# Altium schematic symbol library MCU_ST_STM32F7.SchLib: 155 symbols (part 6 of 6)
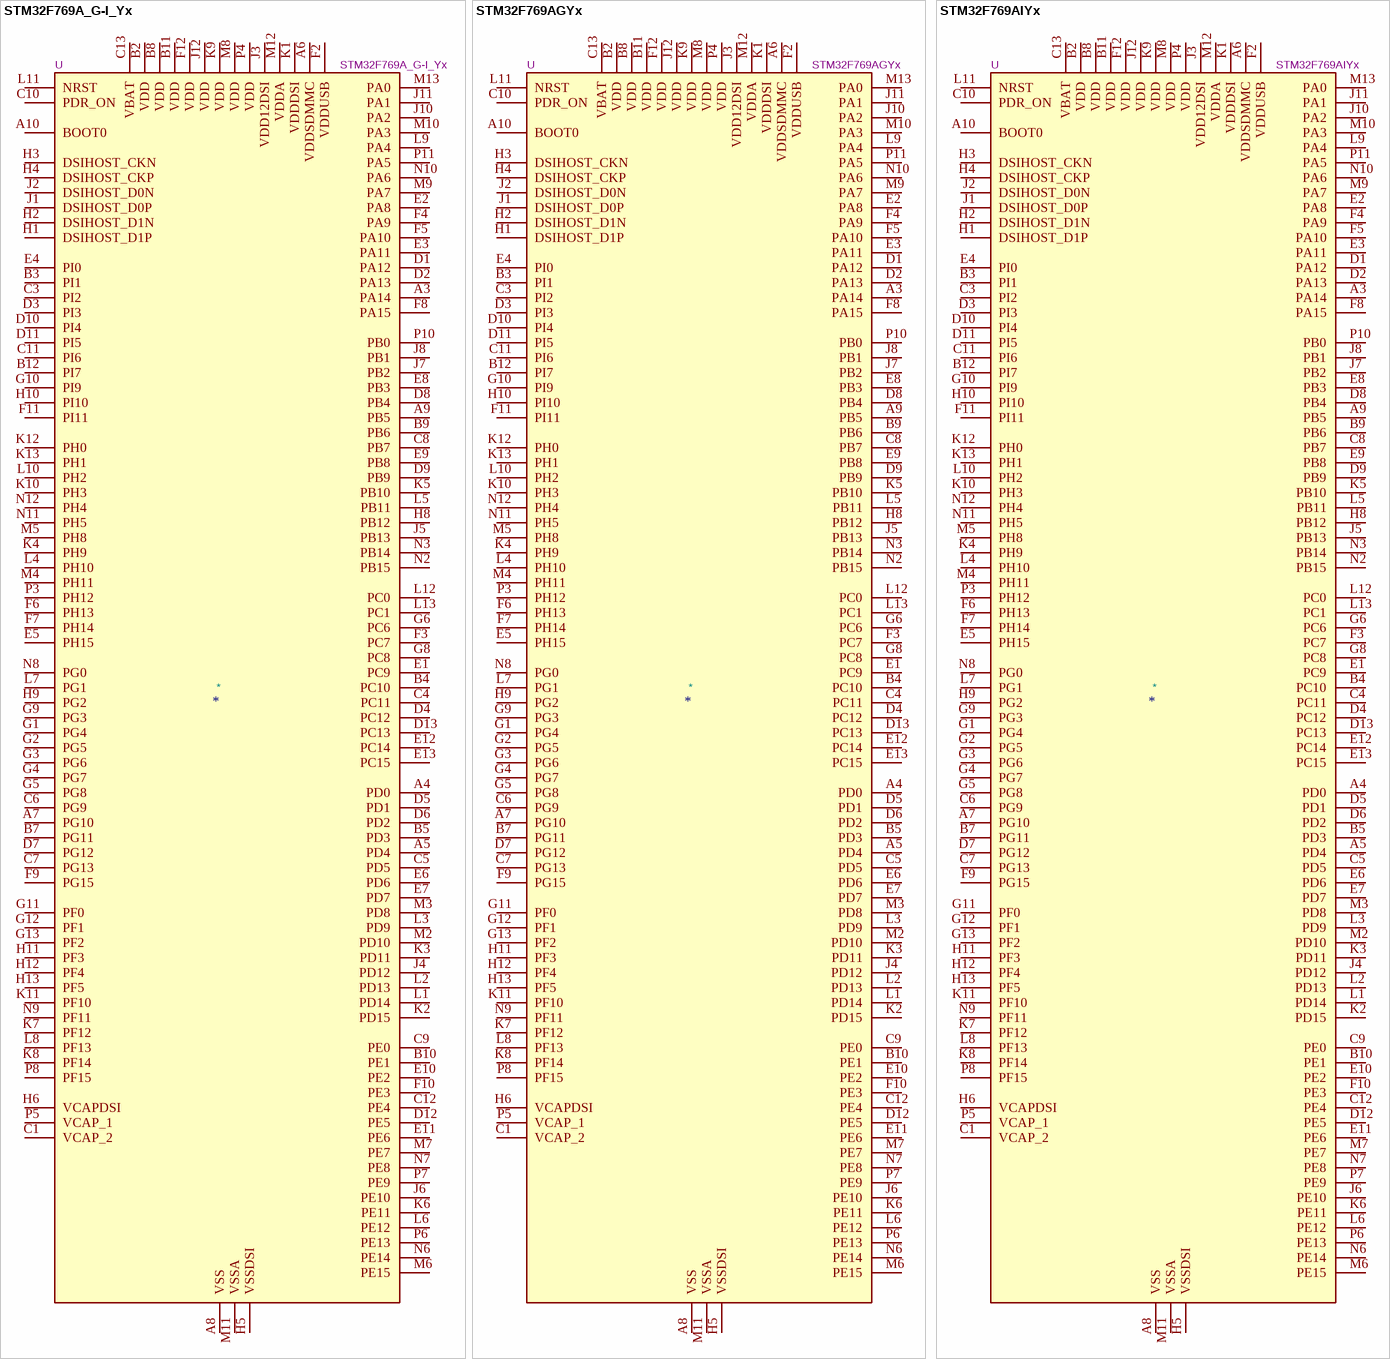
[diagram p52: symbols STM32F769A_G-I_Yx to STM32F769AIYx]

## STM32F769A_G-I_Yx
designator *  value STM32F769A_G-I_Yx  Reference: U
ki_keywords: Arm Cortex-M7 STM32F7 STM32F7x9; ki_description: STMicroelectronics Arm Cortex-M7 MCU, 1024-2048KB flash, 512KB RAM, 216 MHz, 1.7-3.6V, 128 GPIO, WLCSP180; ki_fp_filters: ST*WLCSP*Die451*; Footprint: Package_CSP:ST_WLCSP-180_Die451; Datasheet: https://www.st.com/resource/en/datasheet/stm32f769a.pdf
pins: A1 NC hidden, A2 NC hidden, A3 PA14, A4 PD0, A5 PD4, A6 VDDSDMMC, A7 PG10, A8 VSS, A9 PB5, A10 BOOT0, A11 VSS hidden, A12 NC hidden, A13 NC hidden, B1 NC hidden, B2 VDD, B3 PI1, B4 PC10, B5 PD3, B6 VSS hidden, B7 PG11, B8 VDD, B9 PB6, B10 PE1, B11 VDD, B12 PI7, B13 NC hidden, C1 VCAP_2, C2 VSS hidden, C3 PI2, C4 PC11, C5 PD5, C6 PG9, C7 PG13, C8 PB7, C9 PE0, C10 PDR_ON, C11 PI6, C12 PE4, C13 VBAT, D1 PA12, D2 PA13, D3 PI3, D4 PC12, D5 PD1, D6 PD2, D7 PG12, D8 PB4, D9 PB9, D10 PI4, D11 PI5, D12 PE5, D13 PC13, E1 PC9, E2 PA8, E3 PA11, E4 PI0, E5 PH15, E6 PD6, E7 PD7, E8 PB3, E9 PB8, E10 PE2, E11 PE6, E12 PC14, E13 PC15, F1 VSS hidden, F2 VDDUSB, F3 PC7, F4 PA9, F5 PA10, F6 PH13, F7 PH14, F8 PA15, F9 PG15, F10 PE3, F11 PI11, F12 VDD, F13 VSS hidden, G1 PG4, G2 PG5, G3 PG6, G4 PG7, G5 PG8, G6 PC6, G8 PC8, G9 PG3, G10 PI9, G11 PF0, G12 PF1, G13 PF2, H1 DSIHOST_D1P, H2 DSIHOST_D1N, H3 DSIHOST_CKN, H4 DSIHOST_CKP, H5 VSSDSI, H6 VCAPDSI, H8 PB12, H9 PG2, H10 PI10, H11 PF3, H12 PF4, H13 PF5, J1 DSIHOST_D0P, J2 DSIHOST_D0N, J3 VDD12DSI, J4 PD12, J5 PB13, J6 PE10, J7 PB2, J8 PB1, J9 VSS hidden, J10 PA2, J11 PA1, J12 VDD, J13 VSS hidden, K1 VDDDSI, K2 PD15, K3 PD11, K4 PH9, K5 PB10, K6 PE11, K7 PF12, K8 PF14, K9 VDD, K10 PH3, K11 PF10, K12 PH0, K13 PH1, L1 PD14, L2 PD13, L3 PD9, L4 PH10, L5 PB11, L6 PE12, L7 PG1, L8 PF13, L9 PA4, L10 PH2, L11 NRST, L12 PC0, L13 PC1, M1 VSS hidden, M2 PD10, M3 PD8, M4 PH11, M5 PH8, M6 PE15, M7 PE7, M8 VDD, M9 PA7, M10 PA3, M11 VSSA, M12 VDDA, M13 PA0, N1 NC hidden, N2 PB15, N3 PB14, N4 VSS hidden, N5 VSS hidden, N6 PE14, N7 PE8, N8 PG0, N9 PF11, N10 PA6, N11 PH5, N12 PH4, N13 NC hidden, P1 NC hidden, P2 NC hidden, P3 PH12, P4 VDD, P5 VCAP_1, P6 PE13, P7 PE9, P8 PF15, P9 VSS hidden, P10 PB0, P11 PA5, P12 NC hidden, P13 NC hidden

## STM32F769AGYx
designator *  value STM32F769AGYx  Reference: U
ki_keywords: Arm Cortex-M7 STM32F7 STM32F7x9; ki_description: STMicroelectronics Arm Cortex-M7 MCU, 1024KB flash, 512KB RAM, 216 MHz, 1.7-3.6V, 128 GPIO, WLCSP180; ki_fp_filters: ST*WLCSP*Die451*; Footprint: Package_CSP:ST_WLCSP-180_Die451; Datasheet: https://www.st.com/resource/en/datasheet/stm32f769ag.pdf
pins: A1 NC hidden, A2 NC hidden, A3 PA14, A4 PD0, A5 PD4, A6 VDDSDMMC, A7 PG10, A8 VSS, A9 PB5, A10 BOOT0, A11 VSS hidden, A12 NC hidden, A13 NC hidden, B1 NC hidden, B2 VDD, B3 PI1, B4 PC10, B5 PD3, B6 VSS hidden, B7 PG11, B8 VDD, B9 PB6, B10 PE1, B11 VDD, B12 PI7, B13 NC hidden, C1 VCAP_2, C2 VSS hidden, C3 PI2, C4 PC11, C5 PD5, C6 PG9, C7 PG13, C8 PB7, C9 PE0, C10 PDR_ON, C11 PI6, C12 PE4, C13 VBAT, D1 PA12, D2 PA13, D3 PI3, D4 PC12, D5 PD1, D6 PD2, D7 PG12, D8 PB4, D9 PB9, D10 PI4, D11 PI5, D12 PE5, D13 PC13, E1 PC9, E2 PA8, E3 PA11, E4 PI0, E5 PH15, E6 PD6, E7 PD7, E8 PB3, E9 PB8, E10 PE2, E11 PE6, E12 PC14, E13 PC15, F1 VSS hidden, F2 VDDUSB, F3 PC7, F4 PA9, F5 PA10, F6 PH13, F7 PH14, F8 PA15, F9 PG15, F10 PE3, F11 PI11, F12 VDD, F13 VSS hidden, G1 PG4, G2 PG5, G3 PG6, G4 PG7, G5 PG8, G6 PC6, G8 PC8, G9 PG3, G10 PI9, G11 PF0, G12 PF1, G13 PF2, H1 DSIHOST_D1P, H2 DSIHOST_D1N, H3 DSIHOST_CKN, H4 DSIHOST_CKP, H5 VSSDSI, H6 VCAPDSI, H8 PB12, H9 PG2, H10 PI10, H11 PF3, H12 PF4, H13 PF5, J1 DSIHOST_D0P, J2 DSIHOST_D0N, J3 VDD12DSI, J4 PD12, J5 PB13, J6 PE10, J7 PB2, J8 PB1, J9 VSS hidden, J10 PA2, J11 PA1, J12 VDD, J13 VSS hidden, K1 VDDDSI, K2 PD15, K3 PD11, K4 PH9, K5 PB10, K6 PE11, K7 PF12, K8 PF14, K9 VDD, K10 PH3, K11 PF10, K12 PH0, K13 PH1, L1 PD14, L2 PD13, L3 PD9, L4 PH10, L5 PB11, L6 PE12, L7 PG1, L8 PF13, L9 PA4, L10 PH2, L11 NRST, L12 PC0, L13 PC1, M1 VSS hidden, M2 PD10, M3 PD8, M4 PH11, M5 PH8, M6 PE15, M7 PE7, M8 VDD, M9 PA7, M10 PA3, M11 VSSA, M12 VDDA, M13 PA0, N1 NC hidden, N2 PB15, N3 PB14, N4 VSS hidden, N5 VSS hidden, N6 PE14, N7 PE8, N8 PG0, N9 PF11, N10 PA6, N11 PH5, N12 PH4, N13 NC hidden, P1 NC hidden, P2 NC hidden, P3 PH12, P4 VDD, P5 VCAP_1, P6 PE13, P7 PE9, P8 PF15, P9 VSS hidden, P10 PB0, P11 PA5, P12 NC hidden, P13 NC hidden

## STM32F769AIYx
designator *  value STM32F769AIYx  Reference: U
ki_keywords: Arm Cortex-M7 STM32F7 STM32F7x9; ki_description: STMicroelectronics Arm Cortex-M7 MCU, 2048KB flash, 512KB RAM, 216 MHz, 1.7-3.6V, 128 GPIO, WLCSP180; ki_fp_filters: ST*WLCSP*Die451*; Footprint: Package_CSP:ST_WLCSP-180_Die451; Datasheet: https://www.st.com/resource/en/datasheet/stm32f769ai.pdf
pins: A1 NC hidden, A2 NC hidden, A3 PA14, A4 PD0, A5 PD4, A6 VDDSDMMC, A7 PG10, A8 VSS, A9 PB5, A10 BOOT0, A11 VSS hidden, A12 NC hidden, A13 NC hidden, B1 NC hidden, B2 VDD, B3 PI1, B4 PC10, B5 PD3, B6 VSS hidden, B7 PG11, B8 VDD, B9 PB6, B10 PE1, B11 VDD, B12 PI7, B13 NC hidden, C1 VCAP_2, C2 VSS hidden, C3 PI2, C4 PC11, C5 PD5, C6 PG9, C7 PG13, C8 PB7, C9 PE0, C10 PDR_ON, C11 PI6, C12 PE4, C13 VBAT, D1 PA12, D2 PA13, D3 PI3, D4 PC12, D5 PD1, D6 PD2, D7 PG12, D8 PB4, D9 PB9, D10 PI4, D11 PI5, D12 PE5, D13 PC13, E1 PC9, E2 PA8, E3 PA11, E4 PI0, E5 PH15, E6 PD6, E7 PD7, E8 PB3, E9 PB8, E10 PE2, E11 PE6, E12 PC14, E13 PC15, F1 VSS hidden, F2 VDDUSB, F3 PC7, F4 PA9, F5 PA10, F6 PH13, F7 PH14, F8 PA15, F9 PG15, F10 PE3, F11 PI11, F12 VDD, F13 VSS hidden, G1 PG4, G2 PG5, G3 PG6, G4 PG7, G5 PG8, G6 PC6, G8 PC8, G9 PG3, G10 PI9, G11 PF0, G12 PF1, G13 PF2, H1 DSIHOST_D1P, H2 DSIHOST_D1N, H3 DSIHOST_CKN, H4 DSIHOST_CKP, H5 VSSDSI, H6 VCAPDSI, H8 PB12, H9 PG2, H10 PI10, H11 PF3, H12 PF4, H13 PF5, J1 DSIHOST_D0P, J2 DSIHOST_D0N, J3 VDD12DSI, J4 PD12, J5 PB13, J6 PE10, J7 PB2, J8 PB1, J9 VSS hidden, J10 PA2, J11 PA1, J12 VDD, J13 VSS hidden, K1 VDDDSI, K2 PD15, K3 PD11, K4 PH9, K5 PB10, K6 PE11, K7 PF12, K8 PF14, K9 VDD, K10 PH3, K11 PF10, K12 PH0, K13 PH1, L1 PD14, L2 PD13, L3 PD9, L4 PH10, L5 PB11, L6 PE12, L7 PG1, L8 PF13, L9 PA4, L10 PH2, L11 NRST, L12 PC0, L13 PC1, M1 VSS hidden, M2 PD10, M3 PD8, M4 PH11, M5 PH8, M6 PE15, M7 PE7, M8 VDD, M9 PA7, M10 PA3, M11 VSSA, M12 VDDA, M13 PA0, N1 NC hidden, N2 PB15, N3 PB14, N4 VSS hidden, N5 VSS hidden, N6 PE14, N7 PE8, N8 PG0, N9 PF11, N10 PA6, N11 PH5, N12 PH4, N13 NC hidden, P1 NC hidden, P2 NC hidden, P3 PH12, P4 VDD, P5 VCAP_1, P6 PE13, P7 PE9, P8 PF15, P9 VSS hidden, P10 PB0, P11 PA5, P12 NC hidden, P13 NC hidden

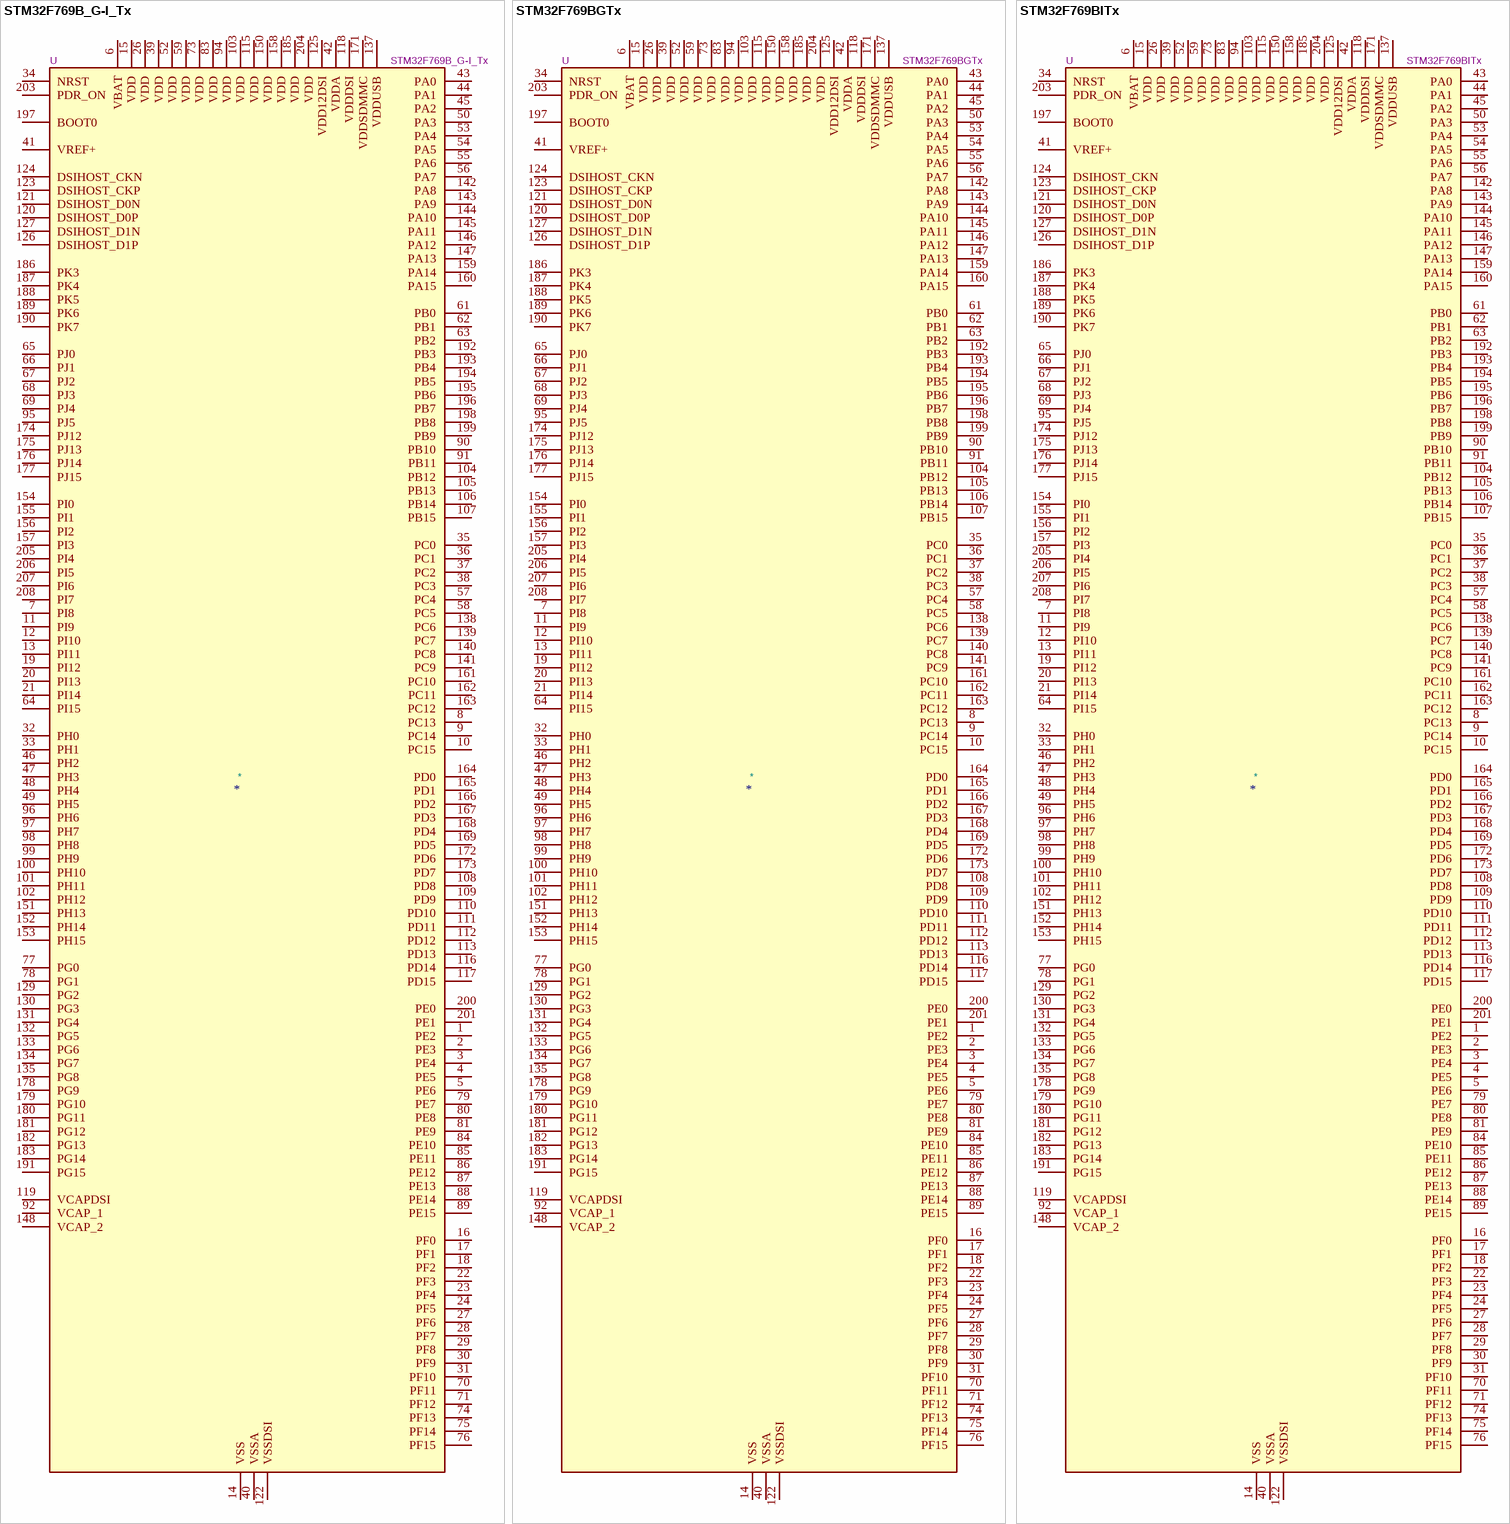
[diagram p41: symbols STM32F769B_G-I_Tx to STM32F769BITx]

## STM32F769B_G-I_Tx
designator *  value STM32F769B_G-I_Tx  Reference: U
ki_keywords: Arm Cortex-M7 STM32F7 STM32F7x9; ki_description: STMicroelectronics Arm Cortex-M7 MCU, 1024-2048KB flash, 512KB RAM, 216 MHz, 1.7-3.6V, 159 GPIO, LQFP208; ki_fp_filters: LQFP*28x28mm*P0.5mm*; Footprint: Package_QFP:LQFP-208_28x28mm_P0.5mm; Datasheet: https://www.st.com/resource/en/datasheet/stm32f769bg.pdf
pins: 1 PE2, 2 PE3, 3 PE4, 4 PE5, 5 PE6, 6 VBAT, 7 PI8, 8 PC13, 9 PC14, 10 PC15, 11 PI9, 12 PI10, 13 PI11, 14 VSS, 15 VDD, 16 PF0, 17 PF1, 18 PF2, 19 PI12, 20 PI13, 21 PI14, 22 PF3, 23 PF4, 24 PF5, 25 VSS hidden, 26 VDD, 27 PF6, 28 PF7, 29 PF8, 30 PF9, 31 PF10, 32 PH0, 33 PH1, 34 NRST, 35 PC0, 36 PC1, 37 PC2, 38 PC3, 39 VDD, 40 VSSA, 41 VREF+, 42 VDDA, 43 PA0, 44 PA1, 45 PA2, 46 PH2, 47 PH3, 48 PH4, 49 PH5, 50 PA3, 51 VSS hidden, 52 VDD, 53 PA4, 54 PA5, 55 PA6, 56 PA7, 57 PC4, 58 PC5, 59 VDD, 60 VSS hidden, 61 PB0, 62 PB1, 63 PB2, 64 PI15, 65 PJ0, 66 PJ1, 67 PJ2, 68 PJ3, 69 PJ4, 70 PF11, 71 PF12, 72 VSS hidden, 73 VDD, 74 PF13, 75 PF14, 76 PF15, 77 PG0, 78 PG1, 79 PE7, 80 PE8, 81 PE9, 82 VSS hidden, 83 VDD, 84 PE10, 85 PE11, 86 PE12, 87 PE13, 88 PE14, 89 PE15, 90 PB10, 91 PB11, 92 VCAP_1, 93 VSS hidden, 94 VDD, 95 PJ5, 96 PH6, 97 PH7, 98 PH8, 99 PH9, 100 PH10, 101 PH11, 102 PH12, 103 VDD, 104 PB12, 105 PB13, 106 PB14, 107 PB15, 108 PD8, 109 PD9, 110 PD10, 111 PD11, 112 PD12, 113 PD13, 114 VSS hidden, 115 VDD, 116 PD14, 117 PD15, 118 VDDDSI, 119 VCAPDSI, 120 DSIHOST_D0P, 121 DSIHOST_D0N, 122 VSSDSI, 123 DSIHOST_CKP, 124 DSIHOST_CKN, 125 VDD12DSI, 126 DSIHOST_D1P, 127 DSIHOST_D1N, 128 VSSDSI hidden, 129 PG2, 130 PG3, 131 PG4, 132 PG5, 133 PG6, 134 PG7, 135 PG8, 136 VSS hidden, 137 VDDUSB, 138 PC6, 139 PC7, 140 PC8, 141 PC9, 142 PA8, 143 PA9, 144 PA10, 145 PA11, 146 PA12, 147 PA13, 148 VCAP_2, 149 VSS hidden, 150 VDD, 151 PH13, 152 PH14, 153 PH15, 154 PI0, 155 PI1, 156 PI2, 157 PI3, 158 VDD, 159 PA14, 160 PA15, 161 PC10, 162 PC11, 163 PC12, 164 PD0, 165 PD1, 166 PD2, 167 PD3, 168 PD4, 169 PD5, 170 VSS hidden, 171 VDDSDMMC, 172 PD6, 173 PD7, 174 PJ12, 175 PJ13, 176 PJ14, 177 PJ15, 178 PG9, 179 PG10, 180 PG11, 181 PG12, 182 PG13, 183 PG14, 184 VSS hidden, 185 VDD, 186 PK3, 187 PK4, 188 PK5, 189 PK6, 190 PK7, 191 PG15, 192 PB3, 193 PB4, 194 PB5, 195 PB6, 196 PB7, 197 BOOT0, 198 PB8, 199 PB9, 200 PE0, 201 PE1, 202 VSS hidden, 203 PDR_ON, 204 VDD, 205 PI4, 206 PI5, 207 PI6, 208 PI7

## STM32F769BGTx
designator *  value STM32F769BGTx  Reference: U
ki_keywords: Arm Cortex-M7 STM32F7 STM32F7x9; ki_description: STMicroelectronics Arm Cortex-M7 MCU, 1024KB flash, 512KB RAM, 216 MHz, 1.7-3.6V, 159 GPIO, LQFP208; ki_fp_filters: LQFP*28x28mm*P0.5mm*; Footprint: Package_QFP:LQFP-208_28x28mm_P0.5mm; Datasheet: https://www.st.com/resource/en/datasheet/stm32f769bg.pdf
pins: 1 PE2, 2 PE3, 3 PE4, 4 PE5, 5 PE6, 6 VBAT, 7 PI8, 8 PC13, 9 PC14, 10 PC15, 11 PI9, 12 PI10, 13 PI11, 14 VSS, 15 VDD, 16 PF0, 17 PF1, 18 PF2, 19 PI12, 20 PI13, 21 PI14, 22 PF3, 23 PF4, 24 PF5, 25 VSS hidden, 26 VDD, 27 PF6, 28 PF7, 29 PF8, 30 PF9, 31 PF10, 32 PH0, 33 PH1, 34 NRST, 35 PC0, 36 PC1, 37 PC2, 38 PC3, 39 VDD, 40 VSSA, 41 VREF+, 42 VDDA, 43 PA0, 44 PA1, 45 PA2, 46 PH2, 47 PH3, 48 PH4, 49 PH5, 50 PA3, 51 VSS hidden, 52 VDD, 53 PA4, 54 PA5, 55 PA6, 56 PA7, 57 PC4, 58 PC5, 59 VDD, 60 VSS hidden, 61 PB0, 62 PB1, 63 PB2, 64 PI15, 65 PJ0, 66 PJ1, 67 PJ2, 68 PJ3, 69 PJ4, 70 PF11, 71 PF12, 72 VSS hidden, 73 VDD, 74 PF13, 75 PF14, 76 PF15, 77 PG0, 78 PG1, 79 PE7, 80 PE8, 81 PE9, 82 VSS hidden, 83 VDD, 84 PE10, 85 PE11, 86 PE12, 87 PE13, 88 PE14, 89 PE15, 90 PB10, 91 PB11, 92 VCAP_1, 93 VSS hidden, 94 VDD, 95 PJ5, 96 PH6, 97 PH7, 98 PH8, 99 PH9, 100 PH10, 101 PH11, 102 PH12, 103 VDD, 104 PB12, 105 PB13, 106 PB14, 107 PB15, 108 PD8, 109 PD9, 110 PD10, 111 PD11, 112 PD12, 113 PD13, 114 VSS hidden, 115 VDD, 116 PD14, 117 PD15, 118 VDDDSI, 119 VCAPDSI, 120 DSIHOST_D0P, 121 DSIHOST_D0N, 122 VSSDSI, 123 DSIHOST_CKP, 124 DSIHOST_CKN, 125 VDD12DSI, 126 DSIHOST_D1P, 127 DSIHOST_D1N, 128 VSSDSI hidden, 129 PG2, 130 PG3, 131 PG4, 132 PG5, 133 PG6, 134 PG7, 135 PG8, 136 VSS hidden, 137 VDDUSB, 138 PC6, 139 PC7, 140 PC8, 141 PC9, 142 PA8, 143 PA9, 144 PA10, 145 PA11, 146 PA12, 147 PA13, 148 VCAP_2, 149 VSS hidden, 150 VDD, 151 PH13, 152 PH14, 153 PH15, 154 PI0, 155 PI1, 156 PI2, 157 PI3, 158 VDD, 159 PA14, 160 PA15, 161 PC10, 162 PC11, 163 PC12, 164 PD0, 165 PD1, 166 PD2, 167 PD3, 168 PD4, 169 PD5, 170 VSS hidden, 171 VDDSDMMC, 172 PD6, 173 PD7, 174 PJ12, 175 PJ13, 176 PJ14, 177 PJ15, 178 PG9, 179 PG10, 180 PG11, 181 PG12, 182 PG13, 183 PG14, 184 VSS hidden, 185 VDD, 186 PK3, 187 PK4, 188 PK5, 189 PK6, 190 PK7, 191 PG15, 192 PB3, 193 PB4, 194 PB5, 195 PB6, 196 PB7, 197 BOOT0, 198 PB8, 199 PB9, 200 PE0, 201 PE1, 202 VSS hidden, 203 PDR_ON, 204 VDD, 205 PI4, 206 PI5, 207 PI6, 208 PI7

## STM32F769BITx
designator *  value STM32F769BITx  Reference: U
ki_keywords: Arm Cortex-M7 STM32F7 STM32F7x9; ki_description: STMicroelectronics Arm Cortex-M7 MCU, 2048KB flash, 512KB RAM, 216 MHz, 1.7-3.6V, 159 GPIO, LQFP208; ki_fp_filters: LQFP*28x28mm*P0.5mm*; Footprint: Package_QFP:LQFP-208_28x28mm_P0.5mm; Datasheet: https://www.st.com/resource/en/datasheet/stm32f769bi.pdf
pins: 1 PE2, 2 PE3, 3 PE4, 4 PE5, 5 PE6, 6 VBAT, 7 PI8, 8 PC13, 9 PC14, 10 PC15, 11 PI9, 12 PI10, 13 PI11, 14 VSS, 15 VDD, 16 PF0, 17 PF1, 18 PF2, 19 PI12, 20 PI13, 21 PI14, 22 PF3, 23 PF4, 24 PF5, 25 VSS hidden, 26 VDD, 27 PF6, 28 PF7, 29 PF8, 30 PF9, 31 PF10, 32 PH0, 33 PH1, 34 NRST, 35 PC0, 36 PC1, 37 PC2, 38 PC3, 39 VDD, 40 VSSA, 41 VREF+, 42 VDDA, 43 PA0, 44 PA1, 45 PA2, 46 PH2, 47 PH3, 48 PH4, 49 PH5, 50 PA3, 51 VSS hidden, 52 VDD, 53 PA4, 54 PA5, 55 PA6, 56 PA7, 57 PC4, 58 PC5, 59 VDD, 60 VSS hidden, 61 PB0, 62 PB1, 63 PB2, 64 PI15, 65 PJ0, 66 PJ1, 67 PJ2, 68 PJ3, 69 PJ4, 70 PF11, 71 PF12, 72 VSS hidden, 73 VDD, 74 PF13, 75 PF14, 76 PF15, 77 PG0, 78 PG1, 79 PE7, 80 PE8, 81 PE9, 82 VSS hidden, 83 VDD, 84 PE10, 85 PE11, 86 PE12, 87 PE13, 88 PE14, 89 PE15, 90 PB10, 91 PB11, 92 VCAP_1, 93 VSS hidden, 94 VDD, 95 PJ5, 96 PH6, 97 PH7, 98 PH8, 99 PH9, 100 PH10, 101 PH11, 102 PH12, 103 VDD, 104 PB12, 105 PB13, 106 PB14, 107 PB15, 108 PD8, 109 PD9, 110 PD10, 111 PD11, 112 PD12, 113 PD13, 114 VSS hidden, 115 VDD, 116 PD14, 117 PD15, 118 VDDDSI, 119 VCAPDSI, 120 DSIHOST_D0P, 121 DSIHOST_D0N, 122 VSSDSI, 123 DSIHOST_CKP, 124 DSIHOST_CKN, 125 VDD12DSI, 126 DSIHOST_D1P, 127 DSIHOST_D1N, 128 VSSDSI hidden, 129 PG2, 130 PG3, 131 PG4, 132 PG5, 133 PG6, 134 PG7, 135 PG8, 136 VSS hidden, 137 VDDUSB, 138 PC6, 139 PC7, 140 PC8, 141 PC9, 142 PA8, 143 PA9, 144 PA10, 145 PA11, 146 PA12, 147 PA13, 148 VCAP_2, 149 VSS hidden, 150 VDD, 151 PH13, 152 PH14, 153 PH15, 154 PI0, 155 PI1, 156 PI2, 157 PI3, 158 VDD, 159 PA14, 160 PA15, 161 PC10, 162 PC11, 163 PC12, 164 PD0, 165 PD1, 166 PD2, 167 PD3, 168 PD4, 169 PD5, 170 VSS hidden, 171 VDDSDMMC, 172 PD6, 173 PD7, 174 PJ12, 175 PJ13, 176 PJ14, 177 PJ15, 178 PG9, 179 PG10, 180 PG11, 181 PG12, 182 PG13, 183 PG14, 184 VSS hidden, 185 VDD, 186 PK3, 187 PK4, 188 PK5, 189 PK6, 190 PK7, 191 PG15, 192 PB3, 193 PB4, 194 PB5, 195 PB6, 196 PB7, 197 BOOT0, 198 PB8, 199 PB9, 200 PE0, 201 PE1, 202 VSS hidden, 203 PDR_ON, 204 VDD, 205 PI4, 206 PI5, 207 PI6, 208 PI7

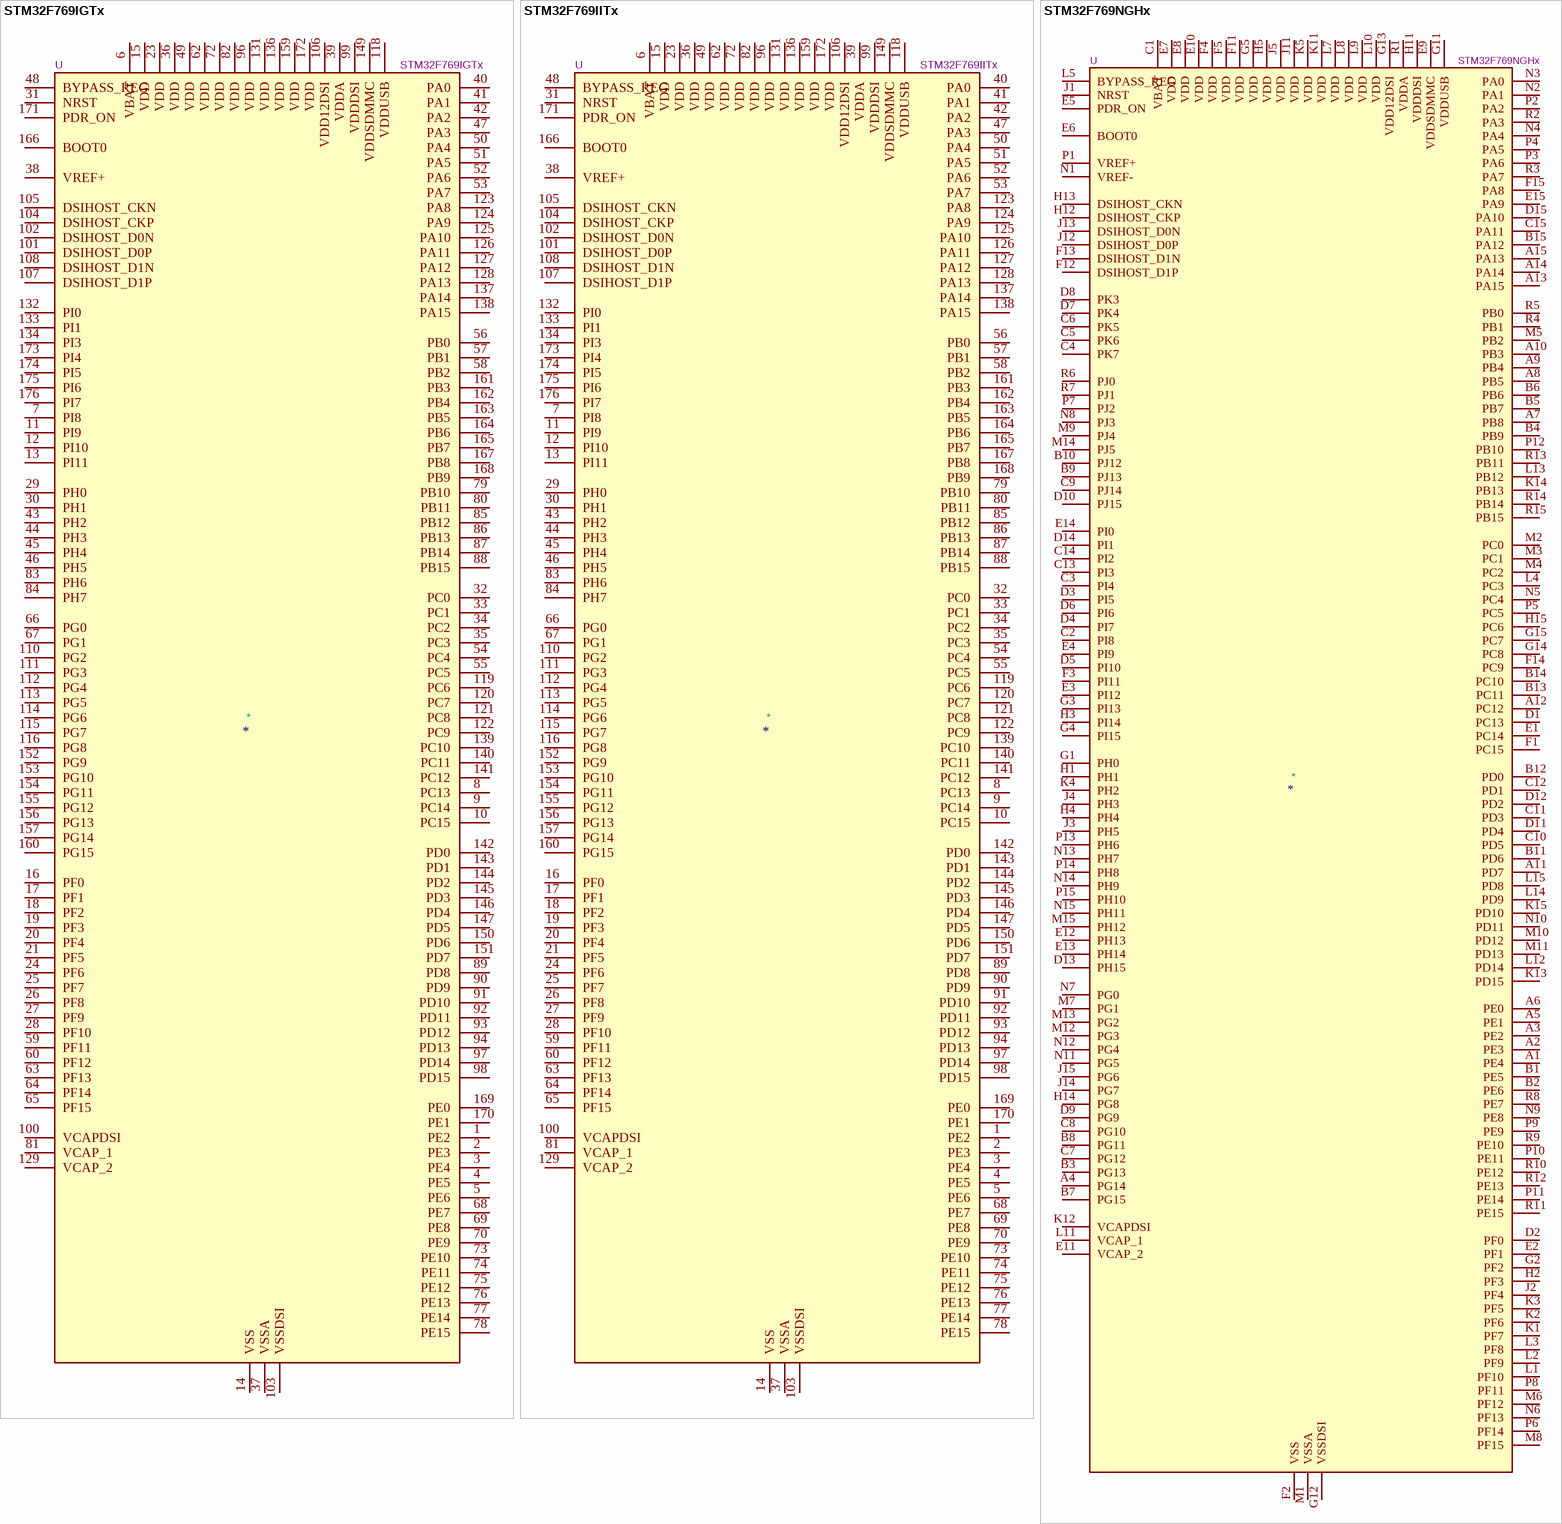
[diagram p42: symbols STM32F769IGTx to STM32F769NGHx]

## STM32F769IGTx
designator *  value STM32F769IGTx  Reference: U
ki_keywords: Arm Cortex-M7 STM32F7 STM32F7x9; ki_description: STMicroelectronics Arm Cortex-M7 MCU, 1024KB flash, 512KB RAM, 216 MHz, 1.7-3.6V, 131 GPIO, LQFP176; ki_fp_filters: LQFP*24x24mm*P0.5mm*; Footprint: Package_QFP:LQFP-176_24x24mm_P0.5mm; Datasheet: https://www.st.com/resource/en/datasheet/stm32f769ig.pdf
pins: 1 PE2, 2 PE3, 3 PE4, 4 PE5, 5 PE6, 6 VBAT, 7 PI8, 8 PC13, 9 PC14, 10 PC15, 11 PI9, 12 PI10, 13 PI11, 14 VSS, 15 VDD, 16 PF0, 17 PF1, 18 PF2, 19 PF3, 20 PF4, 21 PF5, 22 VSS hidden, 23 VDD, 24 PF6, 25 PF7, 26 PF8, 27 PF9, 28 PF10, 29 PH0, 30 PH1, 31 NRST, 32 PC0, 33 PC1, 34 PC2, 35 PC3, 36 VDD, 37 VSSA, 38 VREF+, 39 VDDA, 40 PA0, 41 PA1, 42 PA2, 43 PH2, 44 PH3, 45 PH4, 46 PH5, 47 PA3, 48 BYPASS_REG, 49 VDD, 50 PA4, 51 PA5, 52 PA6, 53 PA7, 54 PC4, 55 PC5, 56 PB0, 57 PB1, 58 PB2, 59 PF11, 60 PF12, 61 VSS hidden, 62 VDD, 63 PF13, 64 PF14, 65 PF15, 66 PG0, 67 PG1, 68 PE7, 69 PE8, 70 PE9, 71 VSS hidden, 72 VDD, 73 PE10, 74 PE11, 75 PE12, 76 PE13, 77 PE14, 78 PE15, 79 PB10, 80 PB11, 81 VCAP_1, 82 VDD, 83 PH6, 84 PH7, 85 PB12, 86 PB13, 87 PB14, 88 PB15, 89 PD8, 90 PD9, 91 PD10, 92 PD11, 93 PD12, 94 PD13, 95 VSS hidden, 96 VDD, 97 PD14, 98 PD15, 99 VDDDSI, 100 VCAPDSI, 101 DSIHOST_D0P, 102 DSIHOST_D0N, 103 VSSDSI, 104 DSIHOST_CKP, 105 DSIHOST_CKN, 106 VDD12DSI, 107 DSIHOST_D1P, 108 DSIHOST_D1N, 109 VSSDSI hidden, 110 PG2, 111 PG3, 112 PG4, 113 PG5, 114 PG6, 115 PG7, 116 PG8, 117 VSS hidden, 118 VDDUSB, 119 PC6, 120 PC7, 121 PC8, 122 PC9, 123 PA8, 124 PA9, 125 PA10, 126 PA11, 127 PA12, 128 PA13, 129 VCAP_2, 130 VSS hidden, 131 VDD, 132 PI0, 133 PI1, 134 PI3, 135 VSS hidden, 136 VDD, 137 PA14, 138 PA15, 139 PC10, 140 PC11, 141 PC12, 142 PD0, 143 PD1, 144 PD2, 145 PD3, 146 PD4, 147 PD5, 148 VSS hidden, 149 VDDSDMMC, 150 PD6, 151 PD7, 152 PG9, 153 PG10, 154 PG11, 155 PG12, 156 PG13, 157 PG14, 158 VSS hidden, 159 VDD, 160 PG15, 161 PB3, 162 PB4, 163 PB5, 164 PB6, 165 PB7, 166 BOOT0, 167 PB8, 168 PB9, 169 PE0, 170 PE1, 171 PDR_ON, 172 VDD, 173 PI4, 174 PI5, 175 PI6, 176 PI7

## STM32F769IITx
designator *  value STM32F769IITx  Reference: U
ki_keywords: Arm Cortex-M7 STM32F7 STM32F7x9; ki_description: STMicroelectronics Arm Cortex-M7 MCU, 2048KB flash, 512KB RAM, 216 MHz, 1.7-3.6V, 131 GPIO, LQFP176; ki_fp_filters: LQFP*24x24mm*P0.5mm*; Footprint: Package_QFP:LQFP-176_24x24mm_P0.5mm; Datasheet: https://www.st.com/resource/en/datasheet/stm32f769ii.pdf
pins: 1 PE2, 2 PE3, 3 PE4, 4 PE5, 5 PE6, 6 VBAT, 7 PI8, 8 PC13, 9 PC14, 10 PC15, 11 PI9, 12 PI10, 13 PI11, 14 VSS, 15 VDD, 16 PF0, 17 PF1, 18 PF2, 19 PF3, 20 PF4, 21 PF5, 22 VSS hidden, 23 VDD, 24 PF6, 25 PF7, 26 PF8, 27 PF9, 28 PF10, 29 PH0, 30 PH1, 31 NRST, 32 PC0, 33 PC1, 34 PC2, 35 PC3, 36 VDD, 37 VSSA, 38 VREF+, 39 VDDA, 40 PA0, 41 PA1, 42 PA2, 43 PH2, 44 PH3, 45 PH4, 46 PH5, 47 PA3, 48 BYPASS_REG, 49 VDD, 50 PA4, 51 PA5, 52 PA6, 53 PA7, 54 PC4, 55 PC5, 56 PB0, 57 PB1, 58 PB2, 59 PF11, 60 PF12, 61 VSS hidden, 62 VDD, 63 PF13, 64 PF14, 65 PF15, 66 PG0, 67 PG1, 68 PE7, 69 PE8, 70 PE9, 71 VSS hidden, 72 VDD, 73 PE10, 74 PE11, 75 PE12, 76 PE13, 77 PE14, 78 PE15, 79 PB10, 80 PB11, 81 VCAP_1, 82 VDD, 83 PH6, 84 PH7, 85 PB12, 86 PB13, 87 PB14, 88 PB15, 89 PD8, 90 PD9, 91 PD10, 92 PD11, 93 PD12, 94 PD13, 95 VSS hidden, 96 VDD, 97 PD14, 98 PD15, 99 VDDDSI, 100 VCAPDSI, 101 DSIHOST_D0P, 102 DSIHOST_D0N, 103 VSSDSI, 104 DSIHOST_CKP, 105 DSIHOST_CKN, 106 VDD12DSI, 107 DSIHOST_D1P, 108 DSIHOST_D1N, 109 VSSDSI hidden, 110 PG2, 111 PG3, 112 PG4, 113 PG5, 114 PG6, 115 PG7, 116 PG8, 117 VSS hidden, 118 VDDUSB, 119 PC6, 120 PC7, 121 PC8, 122 PC9, 123 PA8, 124 PA9, 125 PA10, 126 PA11, 127 PA12, 128 PA13, 129 VCAP_2, 130 VSS hidden, 131 VDD, 132 PI0, 133 PI1, 134 PI3, 135 VSS hidden, 136 VDD, 137 PA14, 138 PA15, 139 PC10, 140 PC11, 141 PC12, 142 PD0, 143 PD1, 144 PD2, 145 PD3, 146 PD4, 147 PD5, 148 VSS hidden, 149 VDDSDMMC, 150 PD6, 151 PD7, 152 PG9, 153 PG10, 154 PG11, 155 PG12, 156 PG13, 157 PG14, 158 VSS hidden, 159 VDD, 160 PG15, 161 PB3, 162 PB4, 163 PB5, 164 PB6, 165 PB7, 166 BOOT0, 167 PB8, 168 PB9, 169 PE0, 170 PE1, 171 PDR_ON, 172 VDD, 173 PI4, 174 PI5, 175 PI6, 176 PI7

## STM32F769NGHx
designator *  value STM32F769NGHx  Reference: U
ki_keywords: Arm Cortex-M7 STM32F7 STM32F7x9; ki_description: STMicroelectronics Arm Cortex-M7 MCU, 1024KB flash, 512KB RAM, 216 MHz, 1.7-3.6V, 159 GPIO, TFBGA216; ki_fp_filters: TFBGA*13x13mm*Layout15x15*P0.8mm*; Footprint: Package_BGA:TFBGA-216_13x13mm_Layout15x15_P0.8mm; Datasheet: https://www.st.com/resource/en/datasheet/stm32f769ng.pdf
pins: A1 PE4, A2 PE3, A3 PE2, A4 PG14, A5 PE1, A6 PE0, A7 PB8, A8 PB5, A9 PB4, A10 PB3, A11 PD7, A12 PC12, A13 PA15, A14 PA14, A15 PA13, B1 PE5, B2 PE6, B3 PG13, B4 PB9, B5 PB7, B6 PB6, B7 PG15, B8 PG11, B9 PJ13, B10 PJ12, B11 PD6, B12 PD0, B13 PC11, B14 PC10, B15 PA12, C1 VBAT, C2 PI8, C3 PI4, C4 PK7, C5 PK6, C6 PK5, C7 PG12, C8 PG10, C9 PJ14, C10 PD5, C11 PD3, C12 PD1, C13 PI3, C14 PI2, C15 PA11, D1 PC13, D2 PF0, D3 PI5, D4 PI7, D5 PI10, D6 PI6, D7 PK4, D8 PK3, D9 PG9, D10 PJ15, D11 PD4, D12 PD2, D13 PH15, D14 PI1, D15 PA10, E1 PC14, E2 PF1, E3 PI12, E4 PI9, E5 PDR_ON, E6 BOOT0, E7 VDD, E8 VDD, E9 VDDSDMMC, E10 VDD, E11 VCAP_2, E12 PH13, E13 PH14, E14 PI0, E15 PA9, F1 PC15, F2 VSS, F3 PI11, F4 VDD, F5 VDD, F6 VSS hidden, F7 VSS hidden, F8 VSS hidden, F9 VSS hidden, F10 VSS hidden, F11 VDD, F12 DSIHOST_D1P, F13 DSIHOST_D1N, F14 PC9, F15 PA8, G1 PH0, G2 PF2, G3 PI13, G4 PI15, G5 VDD, G6 VSS hidden, G10 VSS hidden, G11 VDDUSB, G12 VSSDSI, G13 VDD12DSI, G14 PC8, G15 PC7, H1 PH1, H2 PF3, H3 PI14, H4 PH4, H5 VDD, H6 VSS hidden, H10 VSS hidden, H11 VDDDSI, H12 DSIHOST_CKP, H13 DSIHOST_CKN, H14 PG8, H15 PC6, J1 NRST, J2 PF4, J3 PH5, J4 PH3, J5 VDD, J6 VSS hidden, J10 VSS hidden, J11 VDD, J12 DSIHOST_D0P, J13 DSIHOST_D0N, J14 PG7, J15 PG6, K1 PF7, K2 PF6, K3 PF5, K4 PH2, K5 VDD, K6 VSS hidden, K7 VSS hidden, K8 VSS hidden, K9 VSS hidden, K10 VSS hidden, K11 VDD, K12 VCAPDSI, K13 PD15, K14 PB13, K15 PD10, L1 PF10, L2 PF9, L3 PF8, L4 PC3, L5 BYPASS_REG, L6 VSS hidden, L7 VDD, L8 VDD, L9 VDD, L10 VDD, L11 VCAP_1, L12 PD14, L13 PB12, L14 PD9, L15 PD8, M1 VSSA, M2 PC0, M3 PC1, M4 PC2, M5 PB2, M6 PF12, M7 PG1, M8 PF15, M9 PJ4, M10 PD12, M11 PD13, M12 PG3, M13 PG2, M14 PJ5, M15 PH12, N1 VREF-, N2 PA1, N3 PA0, N4 PA4, N5 PC4, N6 PF13, N7 PG0, N8 PJ3, N9 PE8, N10 PD11, N11 PG5, N12 PG4, N13 PH7, N14 PH9, N15 PH11, P1 VREF+, P2 PA2, P3 PA6, P4 PA5, P5 PC5, P6 PF14, P7 PJ2, P8 PF11, P9 PE9, P10 PE11, P11 PE14, P12 PB10, P13 PH6, P14 PH8, P15 PH10, R1 VDDA, R2 PA3, R3 PA7, R4 PB1, R5 PB0, R6 PJ0, R7 PJ1, R8 PE7, R9 PE10, R10 PE12, R11 PE15, R12 PE13, R13 PB11, R14 PB14, R15 PB15

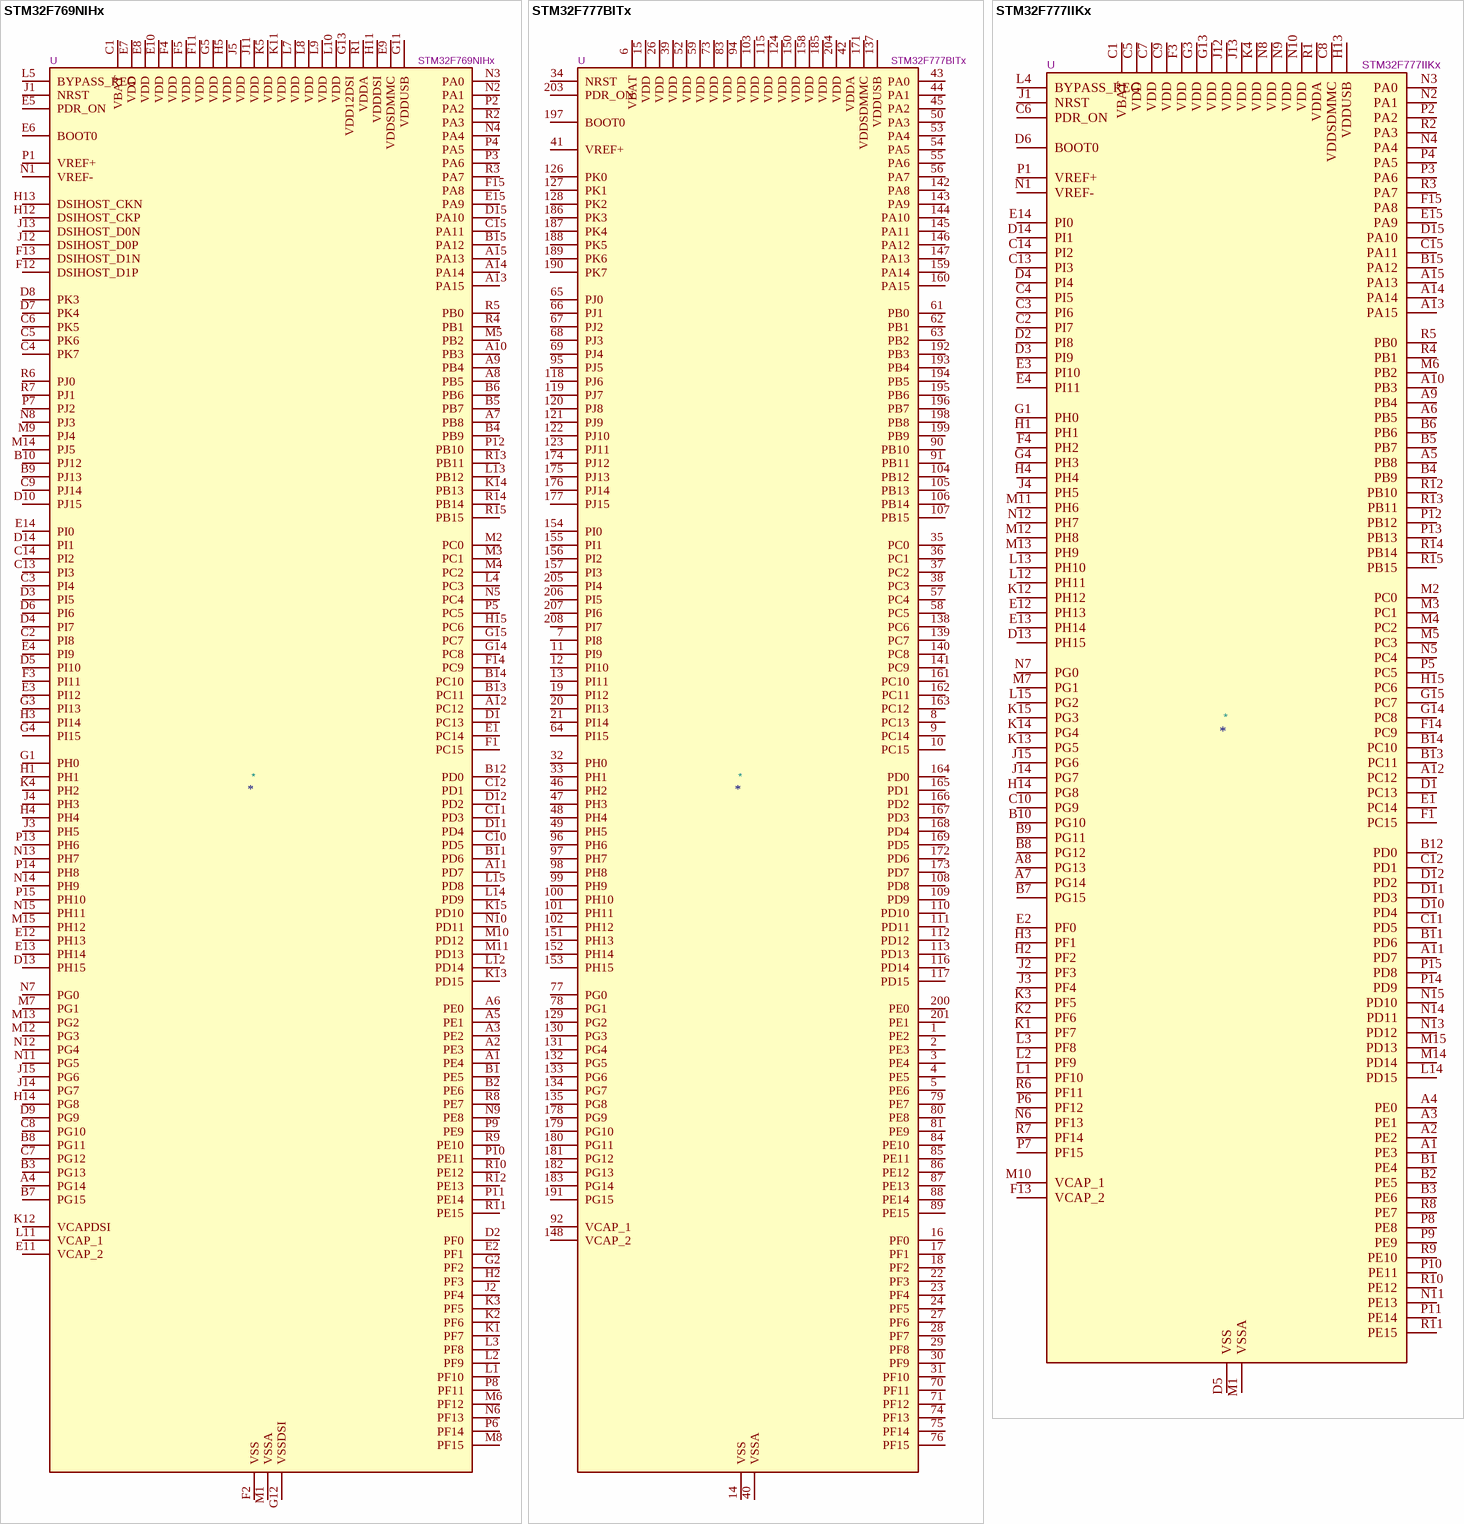
[diagram p43: symbols STM32F769NIHx to STM32F777IIKx]

## STM32F769NIHx
designator *  value STM32F769NIHx  Reference: U
ki_keywords: Arm Cortex-M7 STM32F7 STM32F7x9; ki_description: STMicroelectronics Arm Cortex-M7 MCU, 2048KB flash, 512KB RAM, 216 MHz, 1.7-3.6V, 159 GPIO, TFBGA216; ki_fp_filters: TFBGA*13x13mm*Layout15x15*P0.8mm*; Footprint: Package_BGA:TFBGA-216_13x13mm_Layout15x15_P0.8mm; Datasheet: https://www.st.com/resource/en/datasheet/stm32f769ni.pdf
pins: A1 PE4, A2 PE3, A3 PE2, A4 PG14, A5 PE1, A6 PE0, A7 PB8, A8 PB5, A9 PB4, A10 PB3, A11 PD7, A12 PC12, A13 PA15, A14 PA14, A15 PA13, B1 PE5, B2 PE6, B3 PG13, B4 PB9, B5 PB7, B6 PB6, B7 PG15, B8 PG11, B9 PJ13, B10 PJ12, B11 PD6, B12 PD0, B13 PC11, B14 PC10, B15 PA12, C1 VBAT, C2 PI8, C3 PI4, C4 PK7, C5 PK6, C6 PK5, C7 PG12, C8 PG10, C9 PJ14, C10 PD5, C11 PD3, C12 PD1, C13 PI3, C14 PI2, C15 PA11, D1 PC13, D2 PF0, D3 PI5, D4 PI7, D5 PI10, D6 PI6, D7 PK4, D8 PK3, D9 PG9, D10 PJ15, D11 PD4, D12 PD2, D13 PH15, D14 PI1, D15 PA10, E1 PC14, E2 PF1, E3 PI12, E4 PI9, E5 PDR_ON, E6 BOOT0, E7 VDD, E8 VDD, E9 VDDSDMMC, E10 VDD, E11 VCAP_2, E12 PH13, E13 PH14, E14 PI0, E15 PA9, F1 PC15, F2 VSS, F3 PI11, F4 VDD, F5 VDD, F6 VSS hidden, F7 VSS hidden, F8 VSS hidden, F9 VSS hidden, F10 VSS hidden, F11 VDD, F12 DSIHOST_D1P, F13 DSIHOST_D1N, F14 PC9, F15 PA8, G1 PH0, G2 PF2, G3 PI13, G4 PI15, G5 VDD, G6 VSS hidden, G10 VSS hidden, G11 VDDUSB, G12 VSSDSI, G13 VDD12DSI, G14 PC8, G15 PC7, H1 PH1, H2 PF3, H3 PI14, H4 PH4, H5 VDD, H6 VSS hidden, H10 VSS hidden, H11 VDDDSI, H12 DSIHOST_CKP, H13 DSIHOST_CKN, H14 PG8, H15 PC6, J1 NRST, J2 PF4, J3 PH5, J4 PH3, J5 VDD, J6 VSS hidden, J10 VSS hidden, J11 VDD, J12 DSIHOST_D0P, J13 DSIHOST_D0N, J14 PG7, J15 PG6, K1 PF7, K2 PF6, K3 PF5, K4 PH2, K5 VDD, K6 VSS hidden, K7 VSS hidden, K8 VSS hidden, K9 VSS hidden, K10 VSS hidden, K11 VDD, K12 VCAPDSI, K13 PD15, K14 PB13, K15 PD10, L1 PF10, L2 PF9, L3 PF8, L4 PC3, L5 BYPASS_REG, L6 VSS hidden, L7 VDD, L8 VDD, L9 VDD, L10 VDD, L11 VCAP_1, L12 PD14, L13 PB12, L14 PD9, L15 PD8, M1 VSSA, M2 PC0, M3 PC1, M4 PC2, M5 PB2, M6 PF12, M7 PG1, M8 PF15, M9 PJ4, M10 PD12, M11 PD13, M12 PG3, M13 PG2, M14 PJ5, M15 PH12, N1 VREF-, N2 PA1, N3 PA0, N4 PA4, N5 PC4, N6 PF13, N7 PG0, N8 PJ3, N9 PE8, N10 PD11, N11 PG5, N12 PG4, N13 PH7, N14 PH9, N15 PH11, P1 VREF+, P2 PA2, P3 PA6, P4 PA5, P5 PC5, P6 PF14, P7 PJ2, P8 PF11, P9 PE9, P10 PE11, P11 PE14, P12 PB10, P13 PH6, P14 PH8, P15 PH10, R1 VDDA, R2 PA3, R3 PA7, R4 PB1, R5 PB0, R6 PJ0, R7 PJ1, R8 PE7, R9 PE10, R10 PE12, R11 PE15, R12 PE13, R13 PB11, R14 PB14, R15 PB15

## STM32F777BITx
designator *  value STM32F777BITx  Reference: U
ki_keywords: Arm Cortex-M7 STM32F7 STM32F7x7; ki_description: STMicroelectronics Arm Cortex-M7 MCU, 2048KB flash, 512KB RAM, 216 MHz, 1.7-3.6V, 168 GPIO, LQFP208; ki_fp_filters: LQFP*28x28mm*P0.5mm*; Footprint: Package_QFP:LQFP-208_28x28mm_P0.5mm; Datasheet: https://www.st.com/resource/en/datasheet/stm32f777bi.pdf
pins: 1 PE2, 2 PE3, 3 PE4, 4 PE5, 5 PE6, 6 VBAT, 7 PI8, 8 PC13, 9 PC14, 10 PC15, 11 PI9, 12 PI10, 13 PI11, 14 VSS, 15 VDD, 16 PF0, 17 PF1, 18 PF2, 19 PI12, 20 PI13, 21 PI14, 22 PF3, 23 PF4, 24 PF5, 25 VSS hidden, 26 VDD, 27 PF6, 28 PF7, 29 PF8, 30 PF9, 31 PF10, 32 PH0, 33 PH1, 34 NRST, 35 PC0, 36 PC1, 37 PC2, 38 PC3, 39 VDD, 40 VSSA, 41 VREF+, 42 VDDA, 43 PA0, 44 PA1, 45 PA2, 46 PH2, 47 PH3, 48 PH4, 49 PH5, 50 PA3, 51 VSS hidden, 52 VDD, 53 PA4, 54 PA5, 55 PA6, 56 PA7, 57 PC4, 58 PC5, 59 VDD, 60 VSS hidden, 61 PB0, 62 PB1, 63 PB2, 64 PI15, 65 PJ0, 66 PJ1, 67 PJ2, 68 PJ3, 69 PJ4, 70 PF11, 71 PF12, 72 VSS hidden, 73 VDD, 74 PF13, 75 PF14, 76 PF15, 77 PG0, 78 PG1, 79 PE7, 80 PE8, 81 PE9, 82 VSS hidden, 83 VDD, 84 PE10, 85 PE11, 86 PE12, 87 PE13, 88 PE14, 89 PE15, 90 PB10, 91 PB11, 92 VCAP_1, 93 VSS hidden, 94 VDD, 95 PJ5, 96 PH6, 97 PH7, 98 PH8, 99 PH9, 100 PH10, 101 PH11, 102 PH12, 103 VDD, 104 PB12, 105 PB13, 106 PB14, 107 PB15, 108 PD8, 109 PD9, 110 PD10, 111 PD11, 112 PD12, 113 PD13, 114 VSS hidden, 115 VDD, 116 PD14, 117 PD15, 118 PJ6, 119 PJ7, 120 PJ8, 121 PJ9, 122 PJ10, 123 PJ11, 124 VDD, 125 VSS hidden, 126 PK0, 127 PK1, 128 PK2, 129 PG2, 130 PG3, 131 PG4, 132 PG5, 133 PG6, 134 PG7, 135 PG8, 136 VSS hidden, 137 VDDUSB, 138 PC6, 139 PC7, 140 PC8, 141 PC9, 142 PA8, 143 PA9, 144 PA10, 145 PA11, 146 PA12, 147 PA13, 148 VCAP_2, 149 VSS hidden, 150 VDD, 151 PH13, 152 PH14, 153 PH15, 154 PI0, 155 PI1, 156 PI2, 157 PI3, 158 VDD, 159 PA14, 160 PA15, 161 PC10, 162 PC11, 163 PC12, 164 PD0, 165 PD1, 166 PD2, 167 PD3, 168 PD4, 169 PD5, 170 VSS hidden, 171 VDDSDMMC, 172 PD6, 173 PD7, 174 PJ12, 175 PJ13, 176 PJ14, 177 PJ15, 178 PG9, 179 PG10, 180 PG11, 181 PG12, 182 PG13, 183 PG14, 184 VSS hidden, 185 VDD, 186 PK3, 187 PK4, 188 PK5, 189 PK6, 190 PK7, 191 PG15, 192 PB3, 193 PB4, 194 PB5, 195 PB6, 196 PB7, 197 BOOT0, 198 PB8, 199 PB9, 200 PE0, 201 PE1, 202 VSS hidden, 203 PDR_ON, 204 VDD, 205 PI4, 206 PI5, 207 PI6, 208 PI7

## STM32F777IIKx
designator *  value STM32F777IIKx  Reference: U
ki_keywords: Arm Cortex-M7 STM32F7 STM32F7x7; ki_description: STMicroelectronics Arm Cortex-M7 MCU, 2048KB flash, 512KB RAM, 216 MHz, 1.7-3.6V, 140 GPIO, UFBGA176; ki_fp_filters: *UFBGA*10x10mm*Layout15x15*P0.65mm*; Footprint: Package_BGA:UFBGA-201_10x10mm_Layout15x15_P0.65mm; Datasheet: https://www.st.com/resource/en/datasheet/stm32f777ii.pdf
pins: A1 PE3, A2 PE2, A3 PE1, A4 PE0, A5 PB8, A6 PB5, A7 PG14, A8 PG13, A9 PB4, A10 PB3, A11 PD7, A12 PC12, A13 PA15, A14 PA14, A15 PA13, B1 PE4, B2 PE5, B3 PE6, B4 PB9, B5 PB7, B6 PB6, B7 PG15, B8 PG12, B9 PG11, B10 PG10, B11 PD6, B12 PD0, B13 PC11, B14 PC10, B15 PA12, C1 VBAT, C2 PI7, C3 PI6, C4 PI5, C5 VDD, C6 PDR_ON, C7 VDD, C8 VDDSDMMC, C9 VDD, C10 PG9, C11 PD5, C12 PD1, C13 PI3, C14 PI2, C15 PA11, D1 PC13, D2 PI8, D3 PI9, D4 PI4, D5 VSS, D6 BOOT0, D7 VSS hidden, D8 VSS hidden, D9 VSS hidden, D10 PD4, D11 PD3, D12 PD2, D13 PH15, D14 PI1, D15 PA10, E1 PC14, E2 PF0, E3 PI10, E4 PI11, E12 PH13, E13 PH14, E14 PI0, E15 PA9, F1 PC15, F2 VSS hidden, F3 VDD, F4 PH2, F6 VSS hidden, F7 VSS hidden, F8 VSS hidden, F9 VSS hidden, F10 VSS hidden, F12 VSS hidden, F13 VCAP_2, F14 PC9, F15 PA8, G1 PH0, G2 VSS hidden, G3 VDD, G4 PH3, G6 VSS hidden, G7 VSS hidden, G8 VSS hidden, G9 VSS hidden, G10 VSS hidden, G12 VSS hidden, G13 VDD, G14 PC8, G15 PC7, H1 PH1, H2 PF2, H3 PF1, H4 PH4, H6 VSS hidden, H7 VSS hidden, H8 VSS hidden, H9 VSS hidden, H10 VSS hidden, H12 VSS hidden, H13 VDDUSB, H14 PG8, H15 PC6, J1 NRST, J2 PF3, J3 PF4, J4 PH5, J6 VSS hidden, J7 VSS hidden, J8 VSS hidden, J9 VSS hidden, J10 VSS hidden, J12 VDD, J13 VDD, J14 PG7, J15 PG6, K1 PF7, K2 PF6, K3 PF5, K4 VDD, K6 VSS hidden, K7 VSS hidden, K8 VSS hidden, K9 VSS hidden, K10 VSS hidden, K12 PH12, K13 PG5, K14 PG4, K15 PG3, L1 PF10, L2 PF9, L3 PF8, L4 BYPASS_REG, L12 PH11, L13 PH10, L14 PD15, L15 PG2, M1 VSSA, M2 PC0, M3 PC1, M4 PC2, M5 PC3, M6 PB2, M7 PG1, M8 VSS hidden, M9 VSS hidden, M10 VCAP_1, M11 PH6, M12 PH8, M13 PH9, M14 PD14, M15 PD13, N1 VREF-, N2 PA1, N3 PA0, N4 PA4, N5 PC4, N6 PF13, N7 PG0, N8 VDD, N9 VDD, N10 VDD, N11 PE13, N12 PH7, N13 PD12, N14 PD11, N15 PD10, P1 VREF+, P2 PA2, P3 PA6, P4 PA5, P5 PC5, P6 PF12, P7 PF15, P8 PE8, P9 PE9, P10 PE11, P11 PE14, P12 PB12, P13 PB13, P14 PD9, P15 PD8, R1 VDDA, R2 PA3, R3 PA7, R4 PB1, R5 PB0, R6 PF11, R7 PF14, R8 PE7, R9 PE10, R10 PE12, R11 PE15, R12 PB10, R13 PB11, R14 PB14, R15 PB15

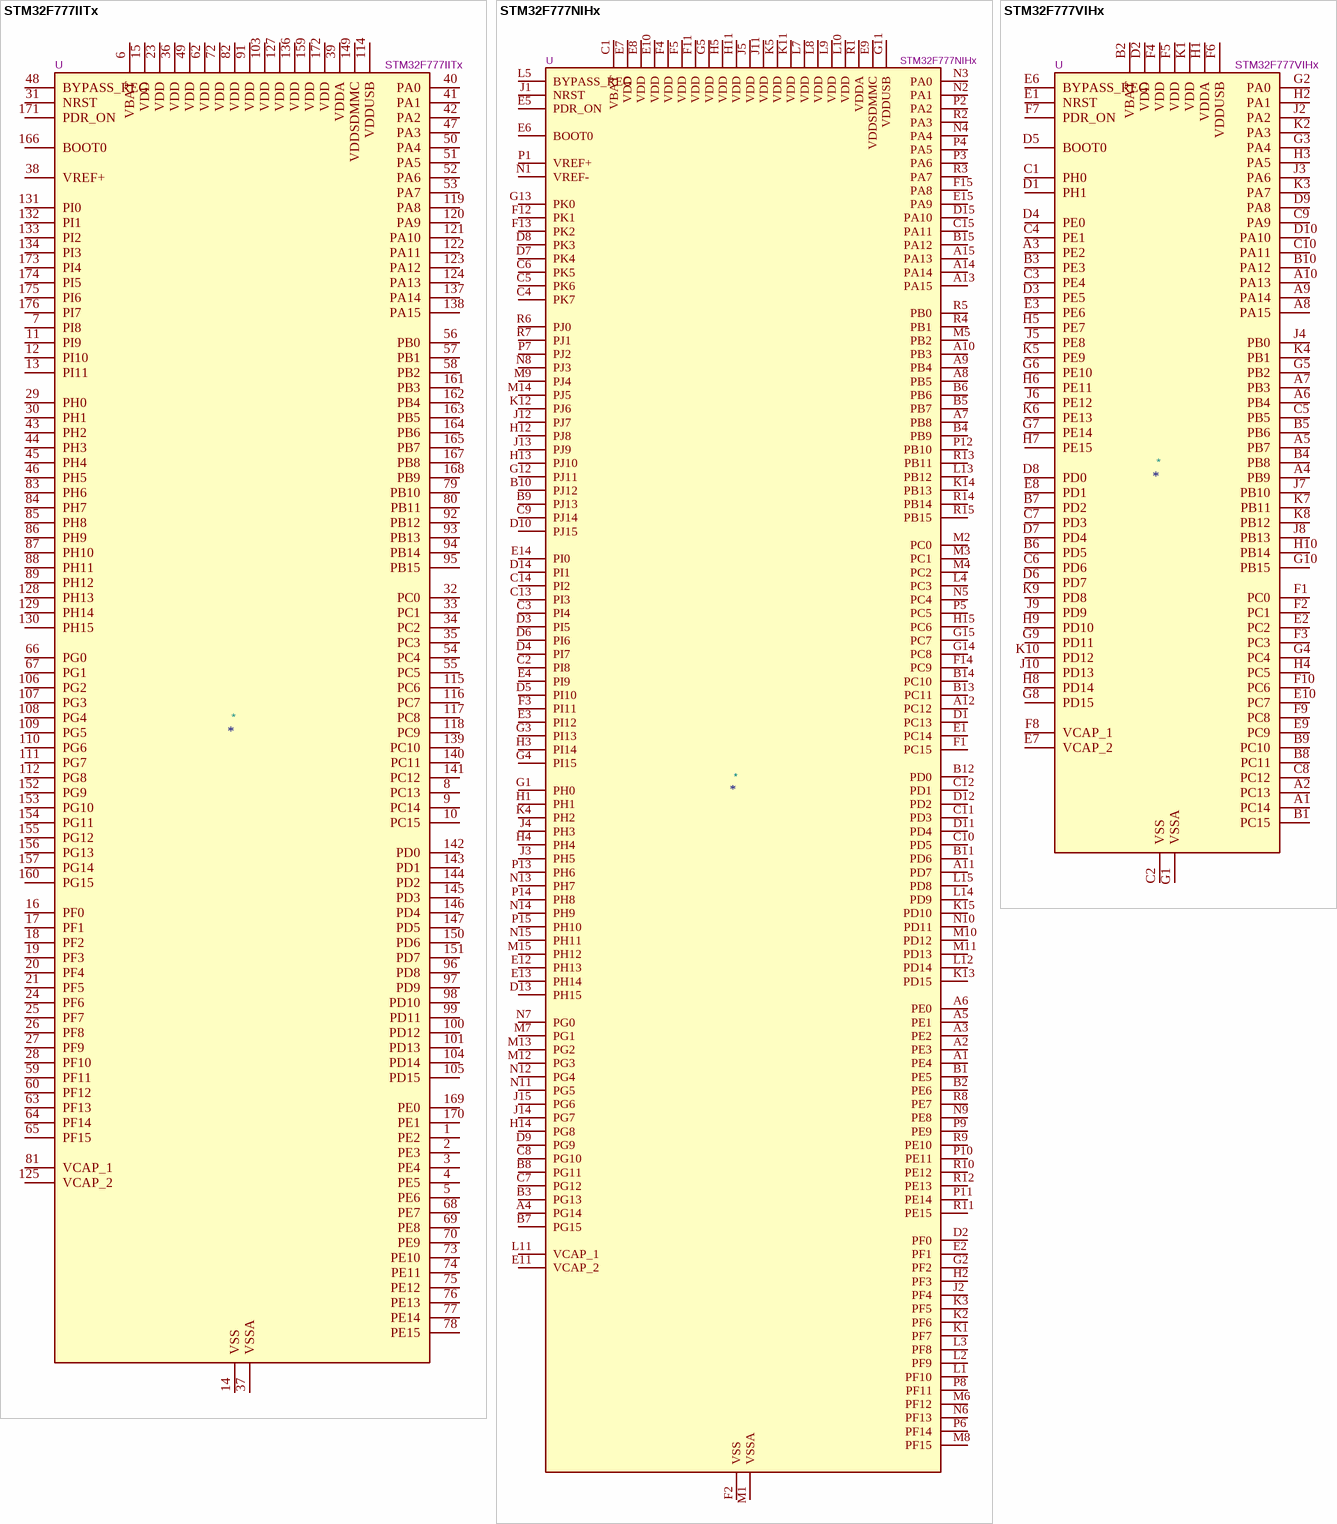
[diagram p44: symbols STM32F777IITx to STM32F777VIHx]

## STM32F777IITx
designator *  value STM32F777IITx  Reference: U
ki_keywords: Arm Cortex-M7 STM32F7 STM32F7x7; ki_description: STMicroelectronics Arm Cortex-M7 MCU, 2048KB flash, 512KB RAM, 216 MHz, 1.7-3.6V, 140 GPIO, LQFP176; ki_fp_filters: LQFP*24x24mm*P0.5mm*; Footprint: Package_QFP:LQFP-176_24x24mm_P0.5mm; Datasheet: https://www.st.com/resource/en/datasheet/stm32f777ii.pdf
pins: 1 PE2, 2 PE3, 3 PE4, 4 PE5, 5 PE6, 6 VBAT, 7 PI8, 8 PC13, 9 PC14, 10 PC15, 11 PI9, 12 PI10, 13 PI11, 14 VSS, 15 VDD, 16 PF0, 17 PF1, 18 PF2, 19 PF3, 20 PF4, 21 PF5, 22 VSS hidden, 23 VDD, 24 PF6, 25 PF7, 26 PF8, 27 PF9, 28 PF10, 29 PH0, 30 PH1, 31 NRST, 32 PC0, 33 PC1, 34 PC2, 35 PC3, 36 VDD, 37 VSSA, 38 VREF+, 39 VDDA, 40 PA0, 41 PA1, 42 PA2, 43 PH2, 44 PH3, 45 PH4, 46 PH5, 47 PA3, 48 BYPASS_REG, 49 VDD, 50 PA4, 51 PA5, 52 PA6, 53 PA7, 54 PC4, 55 PC5, 56 PB0, 57 PB1, 58 PB2, 59 PF11, 60 PF12, 61 VSS hidden, 62 VDD, 63 PF13, 64 PF14, 65 PF15, 66 PG0, 67 PG1, 68 PE7, 69 PE8, 70 PE9, 71 VSS hidden, 72 VDD, 73 PE10, 74 PE11, 75 PE12, 76 PE13, 77 PE14, 78 PE15, 79 PB10, 80 PB11, 81 VCAP_1, 82 VDD, 83 PH6, 84 PH7, 85 PH8, 86 PH9, 87 PH10, 88 PH11, 89 PH12, 90 VSS hidden, 91 VDD, 92 PB12, 93 PB13, 94 PB14, 95 PB15, 96 PD8, 97 PD9, 98 PD10, 99 PD11, 100 PD12, 101 PD13, 102 VSS hidden, 103 VDD, 104 PD14, 105 PD15, 106 PG2, 107 PG3, 108 PG4, 109 PG5, 110 PG6, 111 PG7, 112 PG8, 113 VSS hidden, 114 VDDUSB, 115 PC6, 116 PC7, 117 PC8, 118 PC9, 119 PA8, 120 PA9, 121 PA10, 122 PA11, 123 PA12, 124 PA13, 125 VCAP_2, 126 VSS hidden, 127 VDD, 128 PH13, 129 PH14, 130 PH15, 131 PI0, 132 PI1, 133 PI2, 134 PI3, 135 VSS hidden, 136 VDD, 137 PA14, 138 PA15, 139 PC10, 140 PC11, 141 PC12, 142 PD0, 143 PD1, 144 PD2, 145 PD3, 146 PD4, 147 PD5, 148 VSS hidden, 149 VDDSDMMC, 150 PD6, 151 PD7, 152 PG9, 153 PG10, 154 PG11, 155 PG12, 156 PG13, 157 PG14, 158 VSS hidden, 159 VDD, 160 PG15, 161 PB3, 162 PB4, 163 PB5, 164 PB6, 165 PB7, 166 BOOT0, 167 PB8, 168 PB9, 169 PE0, 170 PE1, 171 PDR_ON, 172 VDD, 173 PI4, 174 PI5, 175 PI6, 176 PI7

## STM32F777NIHx
designator *  value STM32F777NIHx  Reference: U
ki_keywords: Arm Cortex-M7 STM32F7 STM32F7x7; ki_description: STMicroelectronics Arm Cortex-M7 MCU, 2048KB flash, 512KB RAM, 216 MHz, 1.7-3.6V, 168 GPIO, TFBGA216; ki_fp_filters: TFBGA*13x13mm*Layout15x15*P0.8mm*; Footprint: Package_BGA:TFBGA-216_13x13mm_Layout15x15_P0.8mm; Datasheet: https://www.st.com/resource/en/datasheet/stm32f777ni.pdf
pins: A1 PE4, A2 PE3, A3 PE2, A4 PG14, A5 PE1, A6 PE0, A7 PB8, A8 PB5, A9 PB4, A10 PB3, A11 PD7, A12 PC12, A13 PA15, A14 PA14, A15 PA13, B1 PE5, B2 PE6, B3 PG13, B4 PB9, B5 PB7, B6 PB6, B7 PG15, B8 PG11, B9 PJ13, B10 PJ12, B11 PD6, B12 PD0, B13 PC11, B14 PC10, B15 PA12, C1 VBAT, C2 PI8, C3 PI4, C4 PK7, C5 PK6, C6 PK5, C7 PG12, C8 PG10, C9 PJ14, C10 PD5, C11 PD3, C12 PD1, C13 PI3, C14 PI2, C15 PA11, D1 PC13, D2 PF0, D3 PI5, D4 PI7, D5 PI10, D6 PI6, D7 PK4, D8 PK3, D9 PG9, D10 PJ15, D11 PD4, D12 PD2, D13 PH15, D14 PI1, D15 PA10, E1 PC14, E2 PF1, E3 PI12, E4 PI9, E5 PDR_ON, E6 BOOT0, E7 VDD, E8 VDD, E9 VDDSDMMC, E10 VDD, E11 VCAP_2, E12 PH13, E13 PH14, E14 PI0, E15 PA9, F1 PC15, F2 VSS, F3 PI11, F4 VDD, F5 VDD, F6 VSS hidden, F7 VSS hidden, F8 VSS hidden, F9 VSS hidden, F10 VSS hidden, F11 VDD, F12 PK1, F13 PK2, F14 PC9, F15 PA8, G1 PH0, G2 PF2, G3 PI13, G4 PI15, G5 VDD, G6 VSS hidden, G10 VSS hidden, G11 VDDUSB, G12 PJ11, G13 PK0, G14 PC8, G15 PC7, H1 PH1, H2 PF3, H3 PI14, H4 PH4, H5 VDD, H6 VSS hidden, H10 VSS hidden, H11 VDD, H12 PJ8, H13 PJ10, H14 PG8, H15 PC6, J1 NRST, J2 PF4, J3 PH5, J4 PH3, J5 VDD, J6 VSS hidden, J10 VSS hidden, J11 VDD, J12 PJ7, J13 PJ9, J14 PG7, J15 PG6, K1 PF7, K2 PF6, K3 PF5, K4 PH2, K5 VDD, K6 VSS hidden, K7 VSS hidden, K8 VSS hidden, K9 VSS hidden, K10 VSS hidden, K11 VDD, K12 PJ6, K13 PD15, K14 PB13, K15 PD10, L1 PF10, L2 PF9, L3 PF8, L4 PC3, L5 BYPASS_REG, L6 VSS hidden, L7 VDD, L8 VDD, L9 VDD, L10 VDD, L11 VCAP_1, L12 PD14, L13 PB12, L14 PD9, L15 PD8, M1 VSSA, M2 PC0, M3 PC1, M4 PC2, M5 PB2, M6 PF12, M7 PG1, M8 PF15, M9 PJ4, M10 PD12, M11 PD13, M12 PG3, M13 PG2, M14 PJ5, M15 PH12, N1 VREF-, N2 PA1, N3 PA0, N4 PA4, N5 PC4, N6 PF13, N7 PG0, N8 PJ3, N9 PE8, N10 PD11, N11 PG5, N12 PG4, N13 PH7, N14 PH9, N15 PH11, P1 VREF+, P2 PA2, P3 PA6, P4 PA5, P5 PC5, P6 PF14, P7 PJ2, P8 PF11, P9 PE9, P10 PE11, P11 PE14, P12 PB10, P13 PH6, P14 PH8, P15 PH10, R1 VDDA, R2 PA3, R3 PA7, R4 PB1, R5 PB0, R6 PJ0, R7 PJ1, R8 PE7, R9 PE10, R10 PE12, R11 PE15, R12 PE13, R13 PB11, R14 PB14, R15 PB15

## STM32F777VIHx
designator *  value STM32F777VIHx  Reference: U
ki_keywords: Arm Cortex-M7 STM32F7 STM32F7x7; ki_description: STMicroelectronics Arm Cortex-M7 MCU, 2048KB flash, 512KB RAM, 216 MHz, 1.7-3.6V, 82 GPIO, TFBGA100; ki_fp_filters: TFBGA*8x8mm*Layout10x10*P0.8mm*; Footprint: Package_BGA:TFBGA-100_8x8mm_Layout10x10_P0.8mm; Datasheet: https://www.st.com/resource/en/datasheet/stm32f777vi.pdf
pins: A1 PC14, A2 PC13, A3 PE2, A4 PB9, A5 PB7, A6 PB4, A7 PB3, A8 PA15, A9 PA14, A10 PA13, B1 PC15, B2 VBAT, B3 PE3, B4 PB8, B5 PB6, B6 PD5, B7 PD2, B8 PC11, B9 PC10, B10 PA12, C1 PH0, C2 VSS, C3 PE4, C4 PE1, C5 PB5, C6 PD6, C7 PD3, C8 PC12, C9 PA9, C10 PA11, D1 PH1, D2 VDD, D3 PE5, D4 PE0, D5 BOOT0, D6 PD7, D7 PD4, D8 PD0, D9 PA8, D10 PA10, E1 NRST, E2 PC2, E3 PE6, E4 VSS hidden, E5 VSS hidden, E6 BYPASS_REG, E7 VCAP_2, E8 PD1, E9 PC9, E10 PC7, F1 PC0, F2 PC1, F3 PC3, F4 VDD, F5 VDD, F6 VDDUSB, F7 PDR_ON, F8 VCAP_1, F9 PC8, F10 PC6, G1 VSSA, G2 PA0, G3 PA4, G4 PC4, G5 PB2, G6 PE10, G7 PE14, G8 PD15, G9 PD11, G10 PB15, H1 VDDA, H2 PA1, H3 PA5, H4 PC5, H5 PE7, H6 PE11, H7 PE15, H8 PD14, H9 PD10, H10 PB14, J1 VSS hidden, J2 PA2, J3 PA6, J4 PB0, J5 PE8, J6 PE12, J7 PB10, J8 PB13, J9 PD9, J10 PD13, K1 VDD, K2 PA3, K3 PA7, K4 PB1, K5 PE9, K6 PE13, K7 PB11, K8 PB12, K9 PD8, K10 PD12

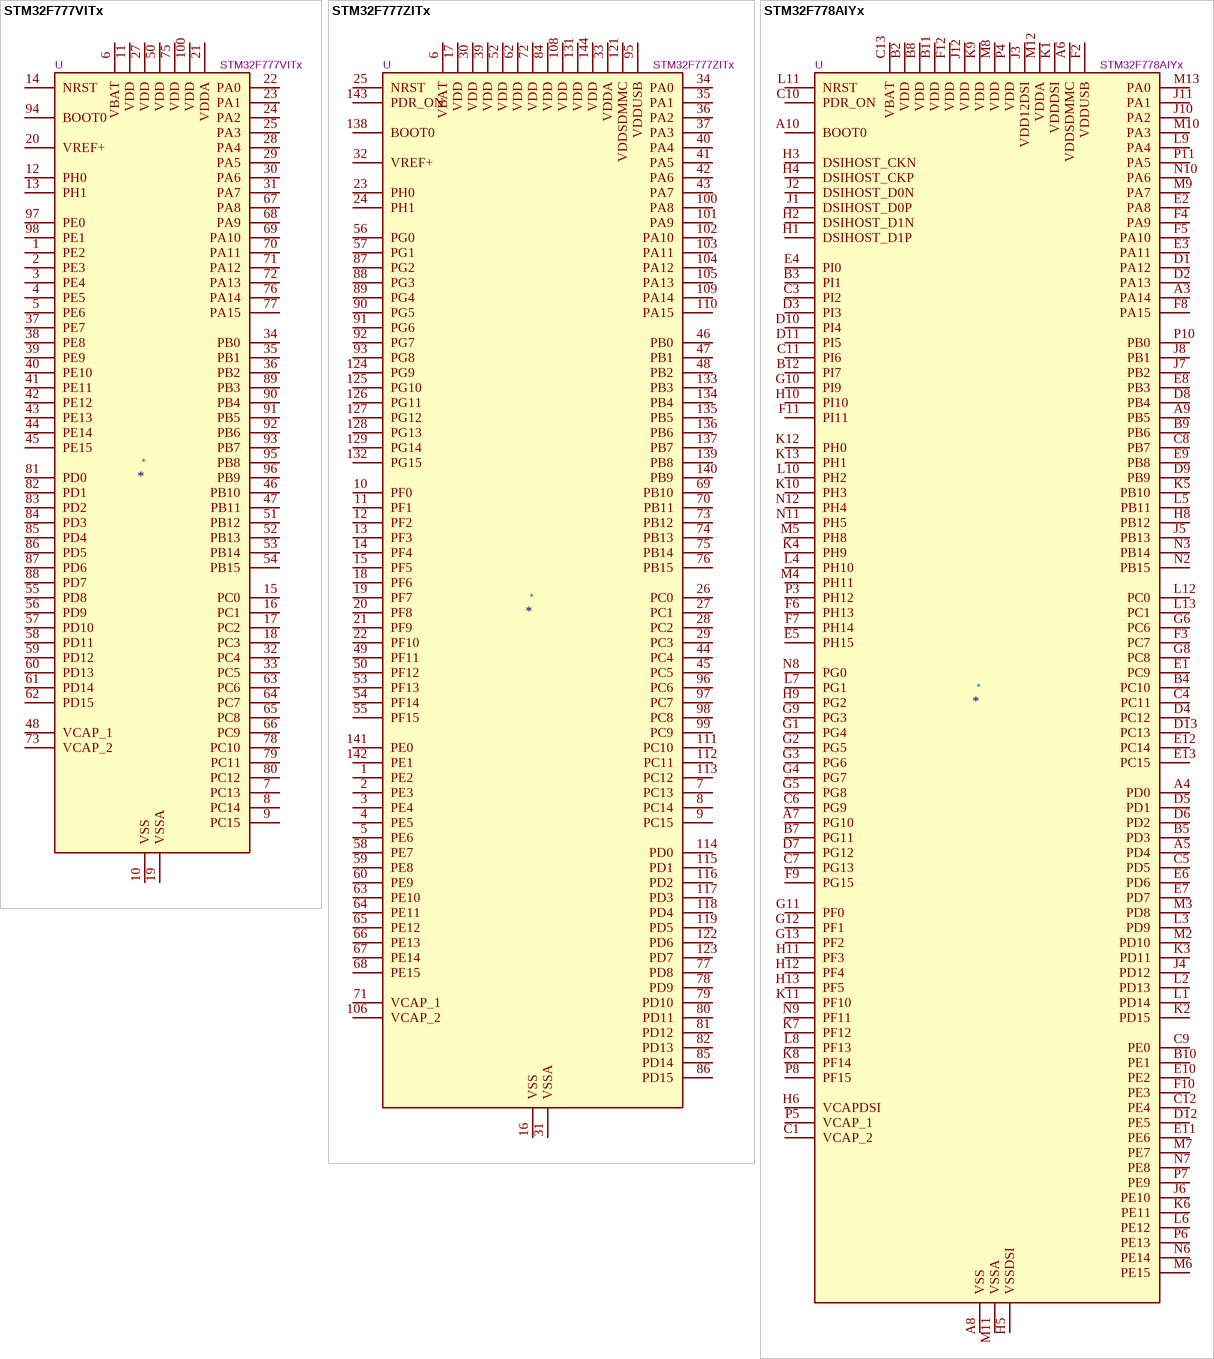
[diagram p45: symbols STM32F777VITx to STM32F778AIYx]

## STM32F777VITx
designator *  value STM32F777VITx  Reference: U
ki_keywords: Arm Cortex-M7 STM32F7 STM32F7x7; ki_description: STMicroelectronics Arm Cortex-M7 MCU, 2048KB flash, 512KB RAM, 216 MHz, 1.7-3.6V, 82 GPIO, LQFP100; ki_fp_filters: LQFP*14x14mm*P0.5mm*; Footprint: Package_QFP:LQFP-100_14x14mm_P0.5mm; Datasheet: https://www.st.com/resource/en/datasheet/stm32f777vi.pdf
pins: 1 PE2, 2 PE3, 3 PE4, 4 PE5, 5 PE6, 6 VBAT, 7 PC13, 8 PC14, 9 PC15, 10 VSS, 11 VDD, 12 PH0, 13 PH1, 14 NRST, 15 PC0, 16 PC1, 17 PC2, 18 PC3, 19 VSSA, 20 VREF+, 21 VDDA, 22 PA0, 23 PA1, 24 PA2, 25 PA3, 26 VSS hidden, 27 VDD, 28 PA4, 29 PA5, 30 PA6, 31 PA7, 32 PC4, 33 PC5, 34 PB0, 35 PB1, 36 PB2, 37 PE7, 38 PE8, 39 PE9, 40 PE10, 41 PE11, 42 PE12, 43 PE13, 44 PE14, 45 PE15, 46 PB10, 47 PB11, 48 VCAP_1, 49 VSS hidden, 50 VDD, 51 PB12, 52 PB13, 53 PB14, 54 PB15, 55 PD8, 56 PD9, 57 PD10, 58 PD11, 59 PD12, 60 PD13, 61 PD14, 62 PD15, 63 PC6, 64 PC7, 65 PC8, 66 PC9, 67 PA8, 68 PA9, 69 PA10, 70 PA11, 71 PA12, 72 PA13, 73 VCAP_2, 74 VSS hidden, 75 VDD, 76 PA14, 77 PA15, 78 PC10, 79 PC11, 80 PC12, 81 PD0, 82 PD1, 83 PD2, 84 PD3, 85 PD4, 86 PD5, 87 PD6, 88 PD7, 89 PB3, 90 PB4, 91 PB5, 92 PB6, 93 PB7, 94 BOOT0, 95 PB8, 96 PB9, 97 PE0, 98 PE1, 99 VSS hidden, 100 VDD

## STM32F777ZITx
designator *  value STM32F777ZITx  Reference: U
ki_keywords: Arm Cortex-M7 STM32F7 STM32F7x7; ki_description: STMicroelectronics Arm Cortex-M7 MCU, 2048KB flash, 512KB RAM, 216 MHz, 1.7-3.6V, 114 GPIO, LQFP144; ki_fp_filters: LQFP*20x20mm*P0.5mm*; Footprint: Package_QFP:LQFP-144_20x20mm_P0.5mm; Datasheet: https://www.st.com/resource/en/datasheet/stm32f777zi.pdf
pins: 1 PE2, 2 PE3, 3 PE4, 4 PE5, 5 PE6, 6 VBAT, 7 PC13, 8 PC14, 9 PC15, 10 PF0, 11 PF1, 12 PF2, 13 PF3, 14 PF4, 15 PF5, 16 VSS, 17 VDD, 18 PF6, 19 PF7, 20 PF8, 21 PF9, 22 PF10, 23 PH0, 24 PH1, 25 NRST, 26 PC0, 27 PC1, 28 PC2, 29 PC3, 30 VDD, 31 VSSA, 32 VREF+, 33 VDDA, 34 PA0, 35 PA1, 36 PA2, 37 PA3, 38 VSS hidden, 39 VDD, 40 PA4, 41 PA5, 42 PA6, 43 PA7, 44 PC4, 45 PC5, 46 PB0, 47 PB1, 48 PB2, 49 PF11, 50 PF12, 51 VSS hidden, 52 VDD, 53 PF13, 54 PF14, 55 PF15, 56 PG0, 57 PG1, 58 PE7, 59 PE8, 60 PE9, 61 VSS hidden, 62 VDD, 63 PE10, 64 PE11, 65 PE12, 66 PE13, 67 PE14, 68 PE15, 69 PB10, 70 PB11, 71 VCAP_1, 72 VDD, 73 PB12, 74 PB13, 75 PB14, 76 PB15, 77 PD8, 78 PD9, 79 PD10, 80 PD11, 81 PD12, 82 PD13, 83 VSS hidden, 84 VDD, 85 PD14, 86 PD15, 87 PG2, 88 PG3, 89 PG4, 90 PG5, 91 PG6, 92 PG7, 93 PG8, 94 VSS hidden, 95 VDDUSB, 96 PC6, 97 PC7, 98 PC8, 99 PC9, 100 PA8, 101 PA9, 102 PA10, 103 PA11, 104 PA12, 105 PA13, 106 VCAP_2, 107 VSS hidden, 108 VDD, 109 PA14, 110 PA15, 111 PC10, 112 PC11, 113 PC12, 114 PD0, 115 PD1, 116 PD2, 117 PD3, 118 PD4, 119 PD5, 120 VSS hidden, 121 VDDSDMMC, 122 PD6, 123 PD7, 124 PG9, 125 PG10, 126 PG11, 127 PG12, 128 PG13, 129 PG14, 130 VSS hidden, 131 VDD, 132 PG15, 133 PB3, 134 PB4, 135 PB5, 136 PB6, 137 PB7, 138 BOOT0, 139 PB8, 140 PB9, 141 PE0, 142 PE1, 143 PDR_ON, 144 VDD

## STM32F778AIYx
designator *  value STM32F778AIYx  Reference: U
ki_keywords: Arm Cortex-M7 STM32F7 STM32F7x9; ki_description: STMicroelectronics Arm Cortex-M7 MCU, 2048KB flash, 512KB RAM, 216 MHz, 1.7-3.6V, 128 GPIO, WLCSP180; ki_fp_filters: ST*WLCSP*Die451*; Footprint: Package_CSP:ST_WLCSP-180_Die451; Datasheet: https://www.st.com/resource/en/datasheet/stm32f778ai.pdf
pins: A1 NC hidden, A2 NC hidden, A3 PA14, A4 PD0, A5 PD4, A6 VDDSDMMC, A7 PG10, A8 VSS, A9 PB5, A10 BOOT0, A11 VSS hidden, A12 NC hidden, A13 NC hidden, B1 NC hidden, B2 VDD, B3 PI1, B4 PC10, B5 PD3, B6 VSS hidden, B7 PG11, B8 VDD, B9 PB6, B10 PE1, B11 VDD, B12 PI7, B13 NC hidden, C1 VCAP_2, C2 VSS hidden, C3 PI2, C4 PC11, C5 PD5, C6 PG9, C7 PG13, C8 PB7, C9 PE0, C10 PDR_ON, C11 PI6, C12 PE4, C13 VBAT, D1 PA12, D2 PA13, D3 PI3, D4 PC12, D5 PD1, D6 PD2, D7 PG12, D8 PB4, D9 PB9, D10 PI4, D11 PI5, D12 PE5, D13 PC13, E1 PC9, E2 PA8, E3 PA11, E4 PI0, E5 PH15, E6 PD6, E7 PD7, E8 PB3, E9 PB8, E10 PE2, E11 PE6, E12 PC14, E13 PC15, F1 VSS hidden, F2 VDDUSB, F3 PC7, F4 PA9, F5 PA10, F6 PH13, F7 PH14, F8 PA15, F9 PG15, F10 PE3, F11 PI11, F12 VDD, F13 VSS hidden, G1 PG4, G2 PG5, G3 PG6, G4 PG7, G5 PG8, G6 PC6, G8 PC8, G9 PG3, G10 PI9, G11 PF0, G12 PF1, G13 PF2, H1 DSIHOST_D1P, H2 DSIHOST_D1N, H3 DSIHOST_CKN, H4 DSIHOST_CKP, H5 VSSDSI, H6 VCAPDSI, H8 PB12, H9 PG2, H10 PI10, H11 PF3, H12 PF4, H13 PF5, J1 DSIHOST_D0P, J2 DSIHOST_D0N, J3 VDD12DSI, J4 PD12, J5 PB13, J6 PE10, J7 PB2, J8 PB1, J9 VSS hidden, J10 PA2, J11 PA1, J12 VDD, J13 VSS hidden, K1 VDDDSI, K2 PD15, K3 PD11, K4 PH9, K5 PB10, K6 PE11, K7 PF12, K8 PF14, K9 VDD, K10 PH3, K11 PF10, K12 PH0, K13 PH1, L1 PD14, L2 PD13, L3 PD9, L4 PH10, L5 PB11, L6 PE12, L7 PG1, L8 PF13, L9 PA4, L10 PH2, L11 NRST, L12 PC0, L13 PC1, M1 VSS hidden, M2 PD10, M3 PD8, M4 PH11, M5 PH8, M6 PE15, M7 PE7, M8 VDD, M9 PA7, M10 PA3, M11 VSSA, M12 VDDA, M13 PA0, N1 NC hidden, N2 PB15, N3 PB14, N4 VSS hidden, N5 VSS hidden, N6 PE14, N7 PE8, N8 PG0, N9 PF11, N10 PA6, N11 PH5, N12 PH4, N13 NC hidden, P1 NC hidden, P2 NC hidden, P3 PH12, P4 VDD, P5 VCAP_1, P6 PE13, P7 PE9, P8 PF15, P9 VSS hidden, P10 PB0, P11 PA5, P12 NC hidden, P13 NC hidden

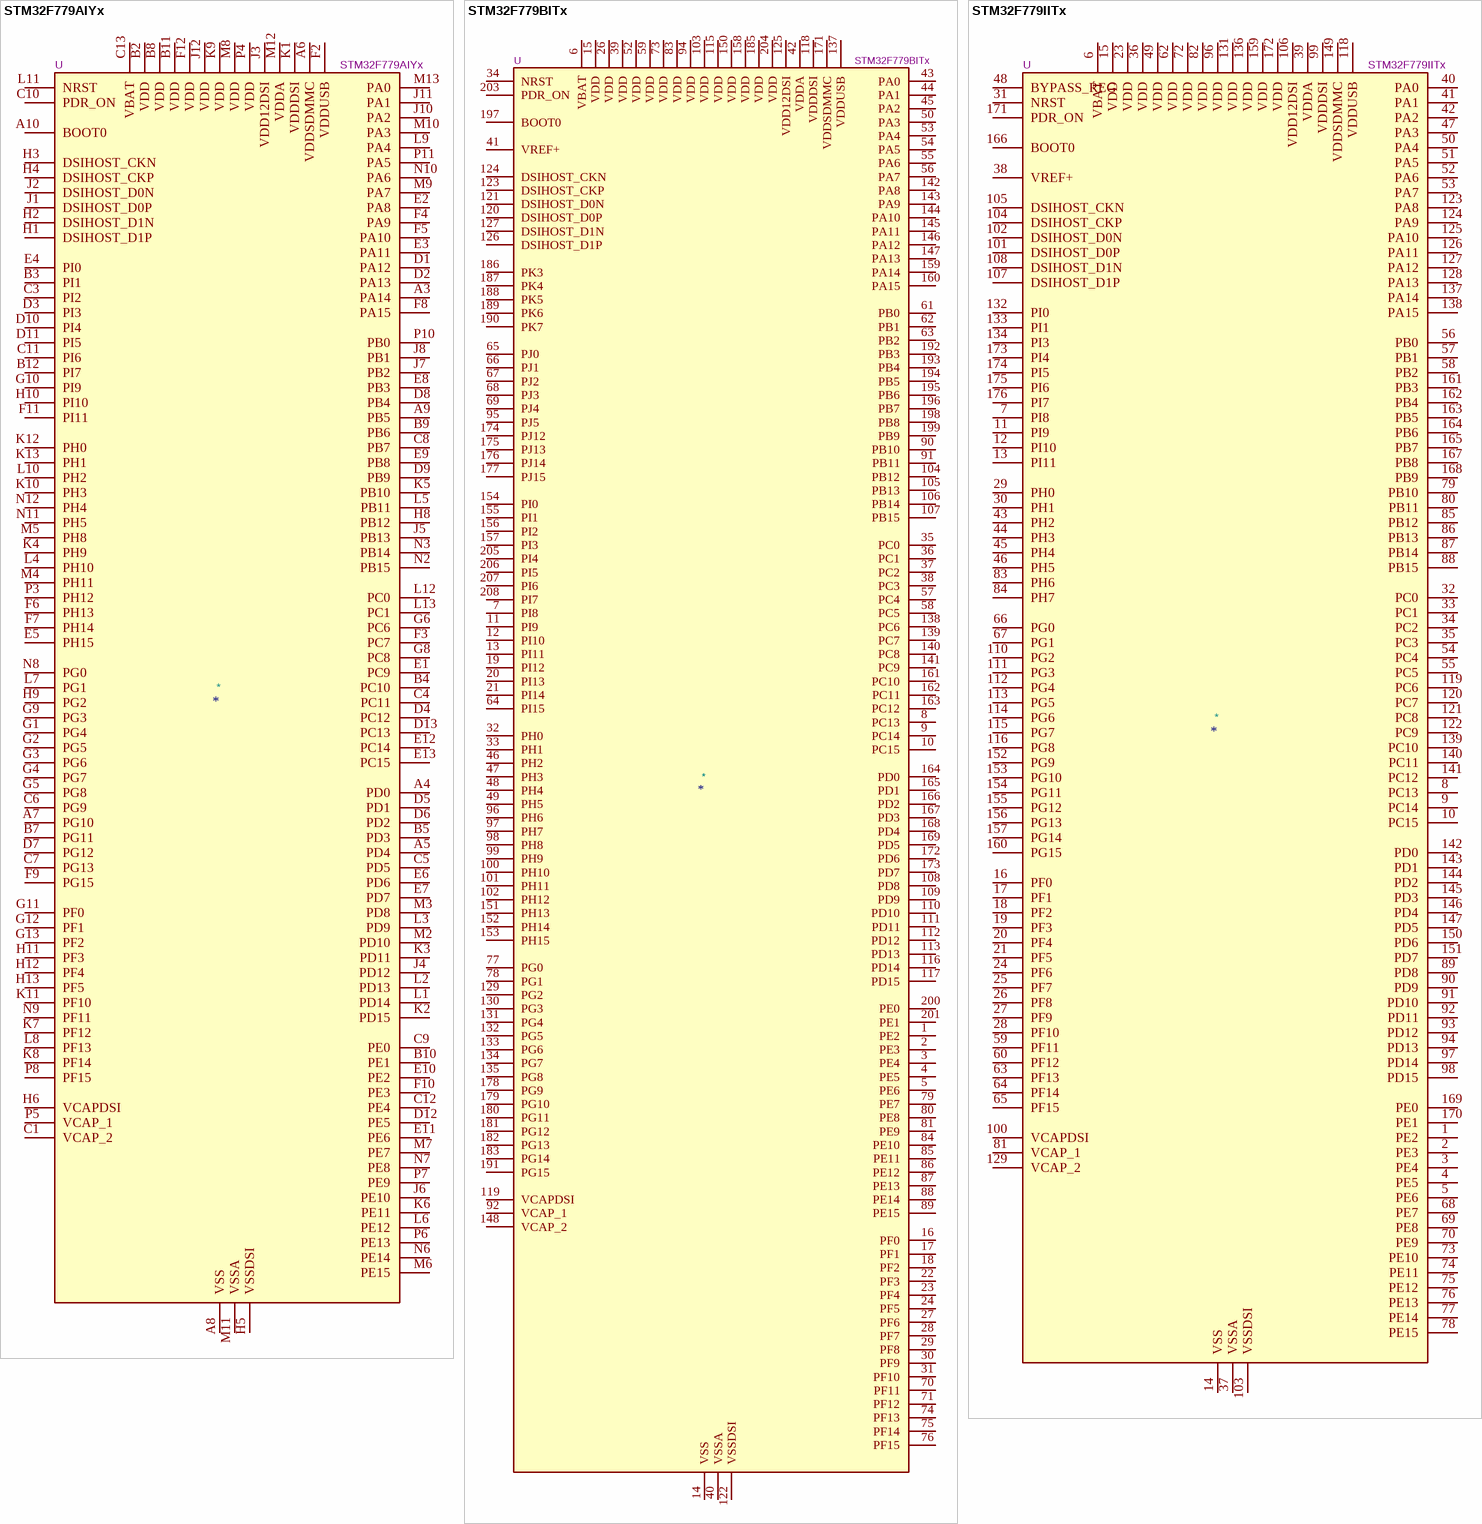
[diagram p46: symbols STM32F779AIYx to STM32F779IITx]

## STM32F779AIYx
designator *  value STM32F779AIYx  Reference: U
ki_keywords: Arm Cortex-M7 STM32F7 STM32F7x9; ki_description: STMicroelectronics Arm Cortex-M7 MCU, 2048KB flash, 512KB RAM, 216 MHz, 1.7-3.6V, 128 GPIO, WLCSP180; ki_fp_filters: ST*WLCSP*Die451*; Footprint: Package_CSP:ST_WLCSP-180_Die451; Datasheet: https://www.st.com/resource/en/datasheet/stm32f779ai.pdf
pins: A1 NC hidden, A2 NC hidden, A3 PA14, A4 PD0, A5 PD4, A6 VDDSDMMC, A7 PG10, A8 VSS, A9 PB5, A10 BOOT0, A11 VSS hidden, A12 NC hidden, A13 NC hidden, B1 NC hidden, B2 VDD, B3 PI1, B4 PC10, B5 PD3, B6 VSS hidden, B7 PG11, B8 VDD, B9 PB6, B10 PE1, B11 VDD, B12 PI7, B13 NC hidden, C1 VCAP_2, C2 VSS hidden, C3 PI2, C4 PC11, C5 PD5, C6 PG9, C7 PG13, C8 PB7, C9 PE0, C10 PDR_ON, C11 PI6, C12 PE4, C13 VBAT, D1 PA12, D2 PA13, D3 PI3, D4 PC12, D5 PD1, D6 PD2, D7 PG12, D8 PB4, D9 PB9, D10 PI4, D11 PI5, D12 PE5, D13 PC13, E1 PC9, E2 PA8, E3 PA11, E4 PI0, E5 PH15, E6 PD6, E7 PD7, E8 PB3, E9 PB8, E10 PE2, E11 PE6, E12 PC14, E13 PC15, F1 VSS hidden, F2 VDDUSB, F3 PC7, F4 PA9, F5 PA10, F6 PH13, F7 PH14, F8 PA15, F9 PG15, F10 PE3, F11 PI11, F12 VDD, F13 VSS hidden, G1 PG4, G2 PG5, G3 PG6, G4 PG7, G5 PG8, G6 PC6, G8 PC8, G9 PG3, G10 PI9, G11 PF0, G12 PF1, G13 PF2, H1 DSIHOST_D1P, H2 DSIHOST_D1N, H3 DSIHOST_CKN, H4 DSIHOST_CKP, H5 VSSDSI, H6 VCAPDSI, H8 PB12, H9 PG2, H10 PI10, H11 PF3, H12 PF4, H13 PF5, J1 DSIHOST_D0P, J2 DSIHOST_D0N, J3 VDD12DSI, J4 PD12, J5 PB13, J6 PE10, J7 PB2, J8 PB1, J9 VSS hidden, J10 PA2, J11 PA1, J12 VDD, J13 VSS hidden, K1 VDDDSI, K2 PD15, K3 PD11, K4 PH9, K5 PB10, K6 PE11, K7 PF12, K8 PF14, K9 VDD, K10 PH3, K11 PF10, K12 PH0, K13 PH1, L1 PD14, L2 PD13, L3 PD9, L4 PH10, L5 PB11, L6 PE12, L7 PG1, L8 PF13, L9 PA4, L10 PH2, L11 NRST, L12 PC0, L13 PC1, M1 VSS hidden, M2 PD10, M3 PD8, M4 PH11, M5 PH8, M6 PE15, M7 PE7, M8 VDD, M9 PA7, M10 PA3, M11 VSSA, M12 VDDA, M13 PA0, N1 NC hidden, N2 PB15, N3 PB14, N4 VSS hidden, N5 VSS hidden, N6 PE14, N7 PE8, N8 PG0, N9 PF11, N10 PA6, N11 PH5, N12 PH4, N13 NC hidden, P1 NC hidden, P2 NC hidden, P3 PH12, P4 VDD, P5 VCAP_1, P6 PE13, P7 PE9, P8 PF15, P9 VSS hidden, P10 PB0, P11 PA5, P12 NC hidden, P13 NC hidden

## STM32F779BITx
designator *  value STM32F779BITx  Reference: U
ki_keywords: Arm Cortex-M7 STM32F7 STM32F7x9; ki_description: STMicroelectronics Arm Cortex-M7 MCU, 2048KB flash, 512KB RAM, 216 MHz, 1.7-3.6V, 159 GPIO, LQFP208; ki_fp_filters: LQFP*28x28mm*P0.5mm*; Footprint: Package_QFP:LQFP-208_28x28mm_P0.5mm; Datasheet: https://www.st.com/resource/en/datasheet/stm32f779bi.pdf
pins: 1 PE2, 2 PE3, 3 PE4, 4 PE5, 5 PE6, 6 VBAT, 7 PI8, 8 PC13, 9 PC14, 10 PC15, 11 PI9, 12 PI10, 13 PI11, 14 VSS, 15 VDD, 16 PF0, 17 PF1, 18 PF2, 19 PI12, 20 PI13, 21 PI14, 22 PF3, 23 PF4, 24 PF5, 25 VSS hidden, 26 VDD, 27 PF6, 28 PF7, 29 PF8, 30 PF9, 31 PF10, 32 PH0, 33 PH1, 34 NRST, 35 PC0, 36 PC1, 37 PC2, 38 PC3, 39 VDD, 40 VSSA, 41 VREF+, 42 VDDA, 43 PA0, 44 PA1, 45 PA2, 46 PH2, 47 PH3, 48 PH4, 49 PH5, 50 PA3, 51 VSS hidden, 52 VDD, 53 PA4, 54 PA5, 55 PA6, 56 PA7, 57 PC4, 58 PC5, 59 VDD, 60 VSS hidden, 61 PB0, 62 PB1, 63 PB2, 64 PI15, 65 PJ0, 66 PJ1, 67 PJ2, 68 PJ3, 69 PJ4, 70 PF11, 71 PF12, 72 VSS hidden, 73 VDD, 74 PF13, 75 PF14, 76 PF15, 77 PG0, 78 PG1, 79 PE7, 80 PE8, 81 PE9, 82 VSS hidden, 83 VDD, 84 PE10, 85 PE11, 86 PE12, 87 PE13, 88 PE14, 89 PE15, 90 PB10, 91 PB11, 92 VCAP_1, 93 VSS hidden, 94 VDD, 95 PJ5, 96 PH6, 97 PH7, 98 PH8, 99 PH9, 100 PH10, 101 PH11, 102 PH12, 103 VDD, 104 PB12, 105 PB13, 106 PB14, 107 PB15, 108 PD8, 109 PD9, 110 PD10, 111 PD11, 112 PD12, 113 PD13, 114 VSS hidden, 115 VDD, 116 PD14, 117 PD15, 118 VDDDSI, 119 VCAPDSI, 120 DSIHOST_D0P, 121 DSIHOST_D0N, 122 VSSDSI, 123 DSIHOST_CKP, 124 DSIHOST_CKN, 125 VDD12DSI, 126 DSIHOST_D1P, 127 DSIHOST_D1N, 128 VSSDSI hidden, 129 PG2, 130 PG3, 131 PG4, 132 PG5, 133 PG6, 134 PG7, 135 PG8, 136 VSS hidden, 137 VDDUSB, 138 PC6, 139 PC7, 140 PC8, 141 PC9, 142 PA8, 143 PA9, 144 PA10, 145 PA11, 146 PA12, 147 PA13, 148 VCAP_2, 149 VSS hidden, 150 VDD, 151 PH13, 152 PH14, 153 PH15, 154 PI0, 155 PI1, 156 PI2, 157 PI3, 158 VDD, 159 PA14, 160 PA15, 161 PC10, 162 PC11, 163 PC12, 164 PD0, 165 PD1, 166 PD2, 167 PD3, 168 PD4, 169 PD5, 170 VSS hidden, 171 VDDSDMMC, 172 PD6, 173 PD7, 174 PJ12, 175 PJ13, 176 PJ14, 177 PJ15, 178 PG9, 179 PG10, 180 PG11, 181 PG12, 182 PG13, 183 PG14, 184 VSS hidden, 185 VDD, 186 PK3, 187 PK4, 188 PK5, 189 PK6, 190 PK7, 191 PG15, 192 PB3, 193 PB4, 194 PB5, 195 PB6, 196 PB7, 197 BOOT0, 198 PB8, 199 PB9, 200 PE0, 201 PE1, 202 VSS hidden, 203 PDR_ON, 204 VDD, 205 PI4, 206 PI5, 207 PI6, 208 PI7

## STM32F779IITx
designator *  value STM32F779IITx  Reference: U
ki_keywords: Arm Cortex-M7 STM32F7 STM32F7x9; ki_description: STMicroelectronics Arm Cortex-M7 MCU, 2048KB flash, 512KB RAM, 216 MHz, 1.7-3.6V, 131 GPIO, LQFP176; ki_fp_filters: LQFP*24x24mm*P0.5mm*; Footprint: Package_QFP:LQFP-176_24x24mm_P0.5mm; Datasheet: https://www.st.com/resource/en/datasheet/stm32f779ii.pdf
pins: 1 PE2, 2 PE3, 3 PE4, 4 PE5, 5 PE6, 6 VBAT, 7 PI8, 8 PC13, 9 PC14, 10 PC15, 11 PI9, 12 PI10, 13 PI11, 14 VSS, 15 VDD, 16 PF0, 17 PF1, 18 PF2, 19 PF3, 20 PF4, 21 PF5, 22 VSS hidden, 23 VDD, 24 PF6, 25 PF7, 26 PF8, 27 PF9, 28 PF10, 29 PH0, 30 PH1, 31 NRST, 32 PC0, 33 PC1, 34 PC2, 35 PC3, 36 VDD, 37 VSSA, 38 VREF+, 39 VDDA, 40 PA0, 41 PA1, 42 PA2, 43 PH2, 44 PH3, 45 PH4, 46 PH5, 47 PA3, 48 BYPASS_REG, 49 VDD, 50 PA4, 51 PA5, 52 PA6, 53 PA7, 54 PC4, 55 PC5, 56 PB0, 57 PB1, 58 PB2, 59 PF11, 60 PF12, 61 VSS hidden, 62 VDD, 63 PF13, 64 PF14, 65 PF15, 66 PG0, 67 PG1, 68 PE7, 69 PE8, 70 PE9, 71 VSS hidden, 72 VDD, 73 PE10, 74 PE11, 75 PE12, 76 PE13, 77 PE14, 78 PE15, 79 PB10, 80 PB11, 81 VCAP_1, 82 VDD, 83 PH6, 84 PH7, 85 PB12, 86 PB13, 87 PB14, 88 PB15, 89 PD8, 90 PD9, 91 PD10, 92 PD11, 93 PD12, 94 PD13, 95 VSS hidden, 96 VDD, 97 PD14, 98 PD15, 99 VDDDSI, 100 VCAPDSI, 101 DSIHOST_D0P, 102 DSIHOST_D0N, 103 VSSDSI, 104 DSIHOST_CKP, 105 DSIHOST_CKN, 106 VDD12DSI, 107 DSIHOST_D1P, 108 DSIHOST_D1N, 109 VSSDSI hidden, 110 PG2, 111 PG3, 112 PG4, 113 PG5, 114 PG6, 115 PG7, 116 PG8, 117 VSS hidden, 118 VDDUSB, 119 PC6, 120 PC7, 121 PC8, 122 PC9, 123 PA8, 124 PA9, 125 PA10, 126 PA11, 127 PA12, 128 PA13, 129 VCAP_2, 130 VSS hidden, 131 VDD, 132 PI0, 133 PI1, 134 PI3, 135 VSS hidden, 136 VDD, 137 PA14, 138 PA15, 139 PC10, 140 PC11, 141 PC12, 142 PD0, 143 PD1, 144 PD2, 145 PD3, 146 PD4, 147 PD5, 148 VSS hidden, 149 VDDSDMMC, 150 PD6, 151 PD7, 152 PG9, 153 PG10, 154 PG11, 155 PG12, 156 PG13, 157 PG14, 158 VSS hidden, 159 VDD, 160 PG15, 161 PB3, 162 PB4, 163 PB5, 164 PB6, 165 PB7, 166 BOOT0, 167 PB8, 168 PB9, 169 PE0, 170 PE1, 171 PDR_ON, 172 VDD, 173 PI4, 174 PI5, 175 PI6, 176 PI7

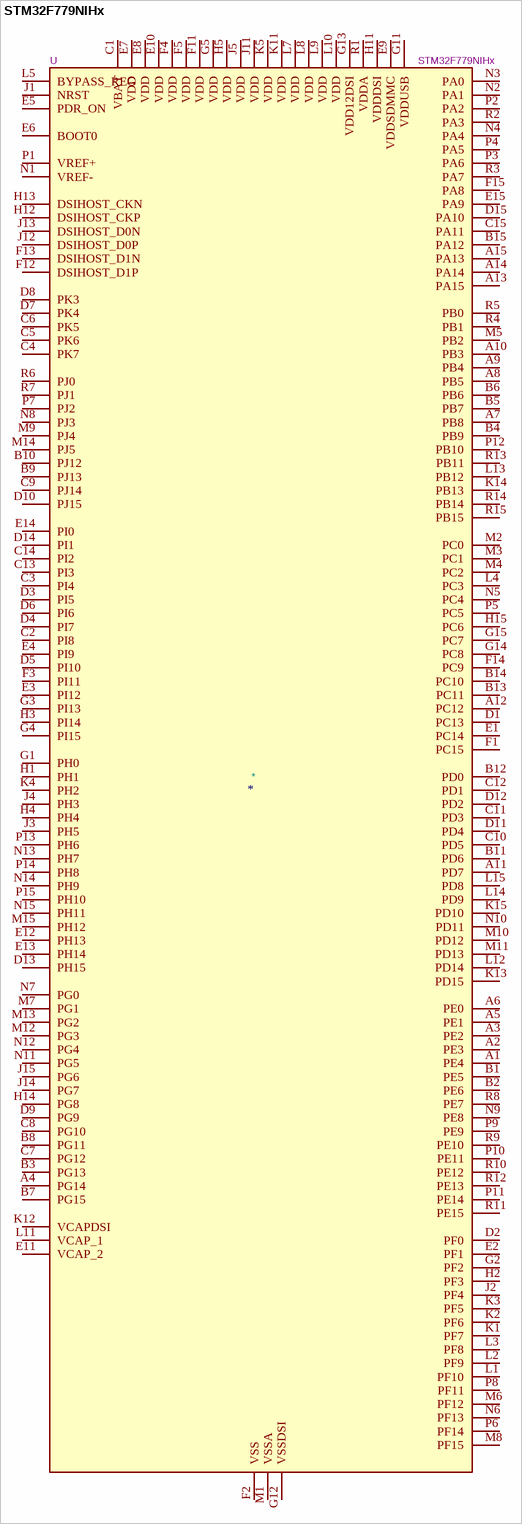
[diagram p47: symbol STM32F779NIHx]

## STM32F779NIHx
designator *  value STM32F779NIHx  Reference: U
ki_keywords: Arm Cortex-M7 STM32F7 STM32F7x9; ki_description: STMicroelectronics Arm Cortex-M7 MCU, 2048KB flash, 512KB RAM, 216 MHz, 1.7-3.6V, 159 GPIO, TFBGA216; ki_fp_filters: TFBGA*13x13mm*Layout15x15*P0.8mm*; Footprint: Package_BGA:TFBGA-216_13x13mm_Layout15x15_P0.8mm; Datasheet: https://www.st.com/resource/en/datasheet/stm32f779ni.pdf
pins: A1 PE4, A2 PE3, A3 PE2, A4 PG14, A5 PE1, A6 PE0, A7 PB8, A8 PB5, A9 PB4, A10 PB3, A11 PD7, A12 PC12, A13 PA15, A14 PA14, A15 PA13, B1 PE5, B2 PE6, B3 PG13, B4 PB9, B5 PB7, B6 PB6, B7 PG15, B8 PG11, B9 PJ13, B10 PJ12, B11 PD6, B12 PD0, B13 PC11, B14 PC10, B15 PA12, C1 VBAT, C2 PI8, C3 PI4, C4 PK7, C5 PK6, C6 PK5, C7 PG12, C8 PG10, C9 PJ14, C10 PD5, C11 PD3, C12 PD1, C13 PI3, C14 PI2, C15 PA11, D1 PC13, D2 PF0, D3 PI5, D4 PI7, D5 PI10, D6 PI6, D7 PK4, D8 PK3, D9 PG9, D10 PJ15, D11 PD4, D12 PD2, D13 PH15, D14 PI1, D15 PA10, E1 PC14, E2 PF1, E3 PI12, E4 PI9, E5 PDR_ON, E6 BOOT0, E7 VDD, E8 VDD, E9 VDDSDMMC, E10 VDD, E11 VCAP_2, E12 PH13, E13 PH14, E14 PI0, E15 PA9, F1 PC15, F2 VSS, F3 PI11, F4 VDD, F5 VDD, F6 VSS hidden, F7 VSS hidden, F8 VSS hidden, F9 VSS hidden, F10 VSS hidden, F11 VDD, F12 DSIHOST_D1P, F13 DSIHOST_D1N, F14 PC9, F15 PA8, G1 PH0, G2 PF2, G3 PI13, G4 PI15, G5 VDD, G6 VSS hidden, G10 VSS hidden, G11 VDDUSB, G12 VSSDSI, G13 VDD12DSI, G14 PC8, G15 PC7, H1 PH1, H2 PF3, H3 PI14, H4 PH4, H5 VDD, H6 VSS hidden, H10 VSS hidden, H11 VDDDSI, H12 DSIHOST_CKP, H13 DSIHOST_CKN, H14 PG8, H15 PC6, J1 NRST, J2 PF4, J3 PH5, J4 PH3, J5 VDD, J6 VSS hidden, J10 VSS hidden, J11 VDD, J12 DSIHOST_D0P, J13 DSIHOST_D0N, J14 PG7, J15 PG6, K1 PF7, K2 PF6, K3 PF5, K4 PH2, K5 VDD, K6 VSS hidden, K7 VSS hidden, K8 VSS hidden, K9 VSS hidden, K10 VSS hidden, K11 VDD, K12 VCAPDSI, K13 PD15, K14 PB13, K15 PD10, L1 PF10, L2 PF9, L3 PF8, L4 PC3, L5 BYPASS_REG, L6 VSS hidden, L7 VDD, L8 VDD, L9 VDD, L10 VDD, L11 VCAP_1, L12 PD14, L13 PB12, L14 PD9, L15 PD8, M1 VSSA, M2 PC0, M3 PC1, M4 PC2, M5 PB2, M6 PF12, M7 PG1, M8 PF15, M9 PJ4, M10 PD12, M11 PD13, M12 PG3, M13 PG2, M14 PJ5, M15 PH12, N1 VREF-, N2 PA1, N3 PA0, N4 PA4, N5 PC4, N6 PF13, N7 PG0, N8 PJ3, N9 PE8, N10 PD11, N11 PG5, N12 PG4, N13 PH7, N14 PH9, N15 PH11, P1 VREF+, P2 PA2, P3 PA6, P4 PA5, P5 PC5, P6 PF14, P7 PJ2, P8 PF11, P9 PE9, P10 PE11, P11 PE14, P12 PB10, P13 PH6, P14 PH8, P15 PH10, R1 VDDA, R2 PA3, R3 PA7, R4 PB1, R5 PB0, R6 PJ0, R7 PJ1, R8 PE7, R9 PE10, R10 PE12, R11 PE15, R12 PE13, R13 PB11, R14 PB14, R15 PB15